# Altium schematic symbol library SchematicLib.SchLib: 140 symbols
Pins are listed as number, name and electrical type; pins without a type are passive.

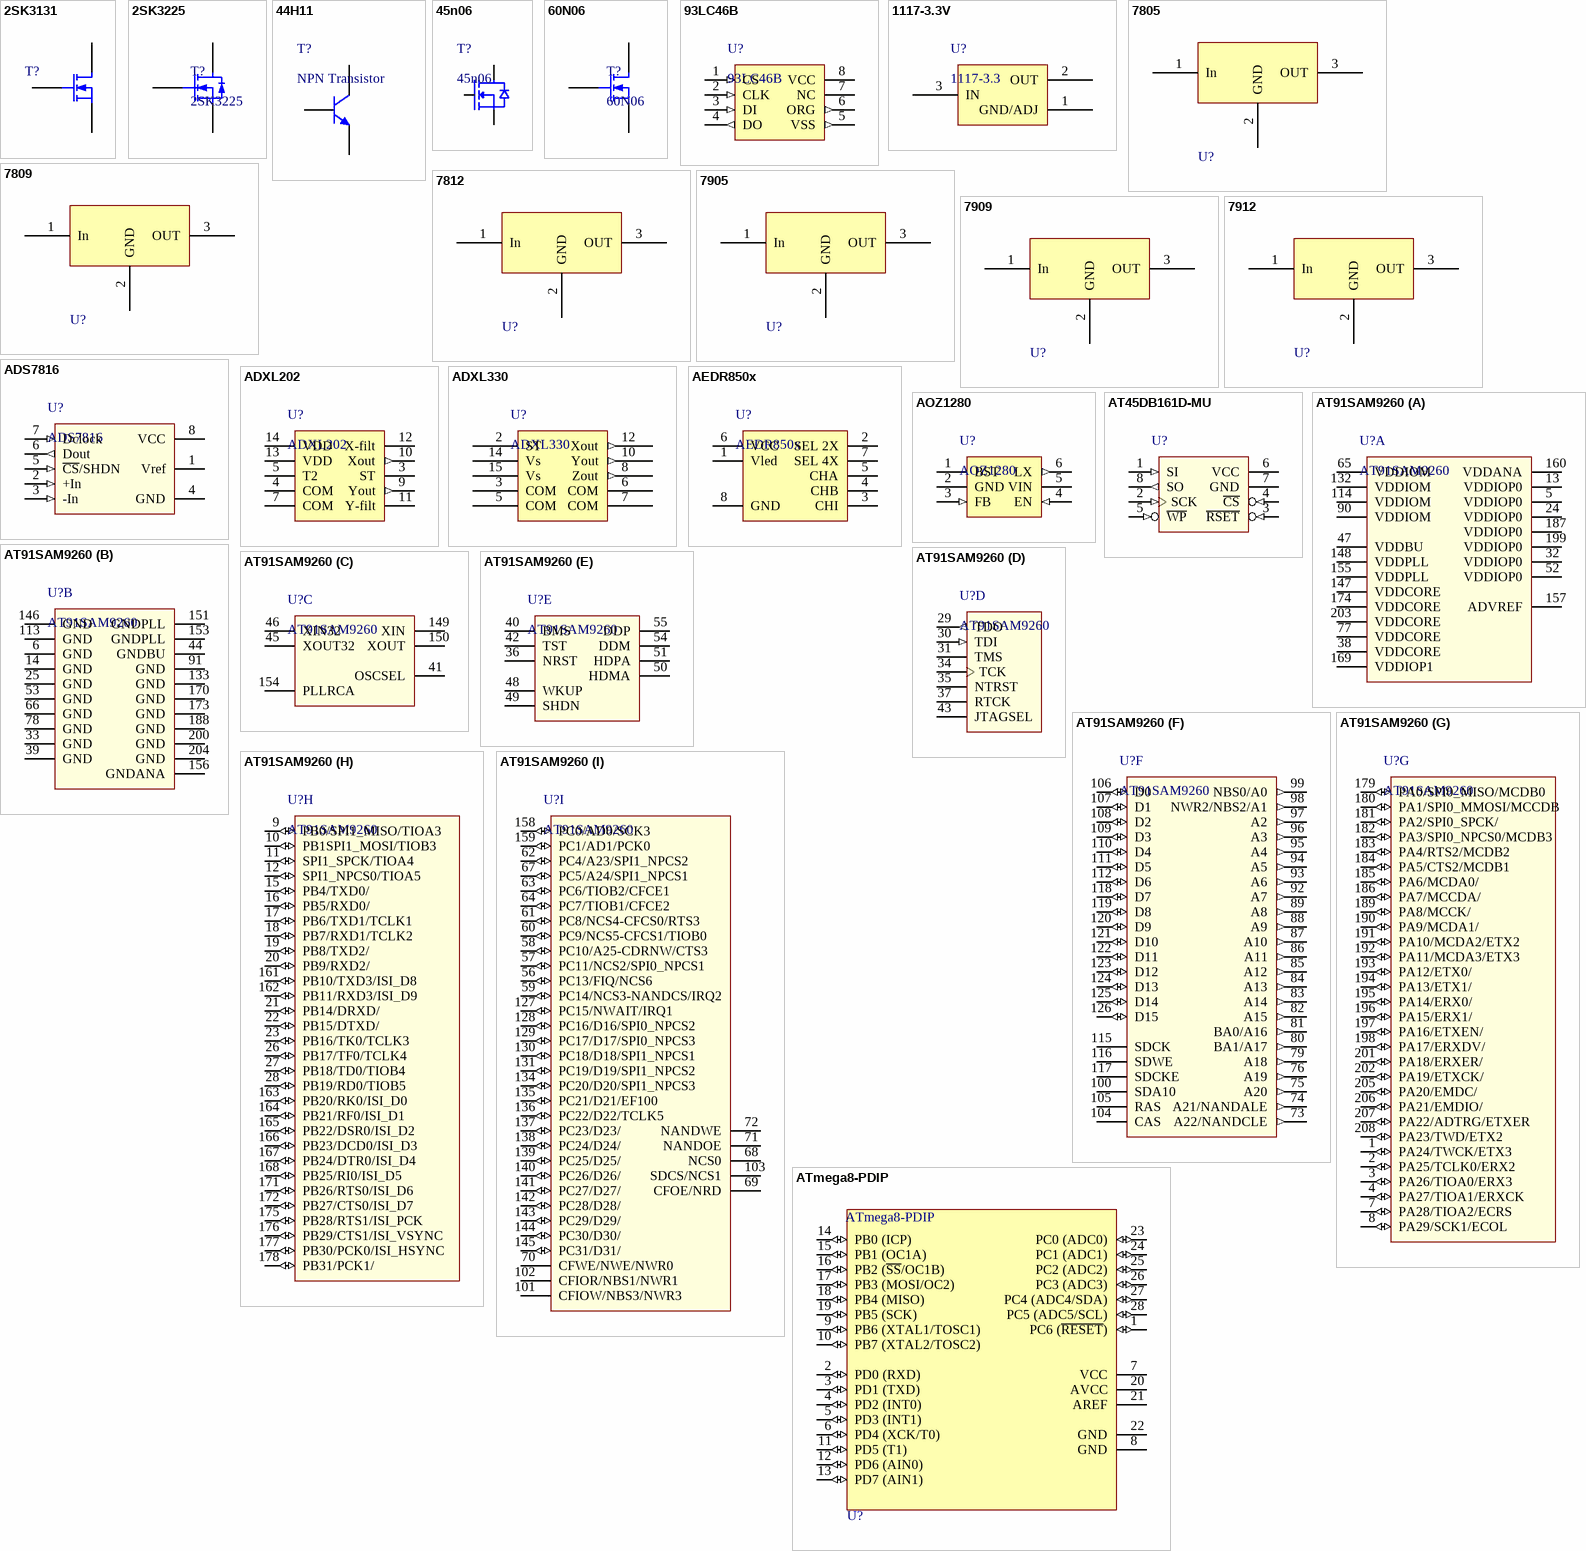
[diagram p0: symbols 2SK3131 to ATmega8-PDIP]

## 2SK3131
designator T?  (value not drawn)
pins: 1 G, 2 D, 3 S

## 2SK3225
designator T?
N-FET
footprint TO252
pins: 1 G, 2 D, 3 S

## 44H11
designator T?, comment NPN Transistor
footprint DPAK
pins: 1 B, 2 C, 3 E

## 45n06
designator T?
footprint TO-220
pins: 1, 2, 3

## 60N06
designator T?
N-CH 60V/60A/0.014R
footprint D2PACK
pins: 1 G, 2 D, 3 S

## 93LC46B
designator U?
EEPROM 1K
footprint TSSOP-8 (Shrink Small Outline; 8 Leads; Body Width 4.4 mm; Pitch 0.65 mm)
pins: 1 CS (in), 2 CLK (in), 3 DI (in), 4 DO (out), 5 VSS (out), 6 ORG (out), 7 NC, 8 VCC (power)

## 1117-3.3V
designator U?, comment 1117-3.3
3.3V Voltage Regulator
footprint SOT-223
pins: 1 GND/ADJ, 2 OUT, 3 IN

## 7805
designator U?  (value not drawn)
Reglator
footprint TO-220
footprint TO252
pins: 1 In, 2 GND, 3 OUT

## 7809
designator U?  (value not drawn)
Reglator
footprint TO-220
footprint DPAK
pins: 1 In, 2 GND, 3 OUT

## 7812
designator U?  (value not drawn)
Reglator
footprint TO-220
footprint DPAK
pins: 1 In, 2 GND, 3 OUT

## 7905
designator U?  (value not drawn)
Reglator
footprint TO-220
footprint DPAK
pins: 1 In, 2 GND, 3 OUT

## 7909
designator U?  (value not drawn)
Reglator
footprint TO-220
footprint DPAK
pins: 1 In, 2 GND, 3 OUT

## 7912
designator U?  (value not drawn)
Reglator
footprint TO-220
footprint DPAK
pins: 1 In, 2 GND, 3 OUT
1 alternate drawing of the same symbol

## ADS7816
designator U?
footprint DIP8
pins: 1 Vref (power), 2 +In (in), 3 -In (in), 4 GND (power), 5 ~{CS}/SHDN (in), 6 Dout (out), 7 Dclock (in), 8 VCC (power)

## ADXL202
designator U?
footprint QC-14
pins: 3 ST, 4 COM, 5 T2, 7 COM, 9 Yout (out), 10 Xout (out), 11 Y-filt, 12 X-filt, 13 VDD, 14 VDD

## ADXL330
designator U?
3-D Accelerometer
footprint LFCSP_LQ16
pins: 1 NC hidden, 2 ST, 3 COM, 4 NC hidden, 5 COM, 6 COM, 7 COM, 8 Zout (out), 9 NC hidden, 10 Yout (out), 11 NC hidden, 12 Xout (out), 13 NC hidden, 14 Vs (power), 15 Vs (power), 16 NC hidden

## AEDR850x
designator U?
Reflectiveo Optical Encoder
footprint AEDR-850x
pins: 1 Vled (power), 2 SEL 2X, 3 CHI, 4 CHB, 5 CHA, 6 VCC (power), 7 SEL 4X, 8 GND

## AOZ1280
designator U?
footprint SOT-23-6
pins: 1 BST, 2 GND (power), 3 FB (in), 4 EN (in), 5 VIN (power), 6 LX (out)

## AT45DB161D-MU
designator U?  (value not drawn)
16Mbit Data Flash
footprint 8S2-EIAJ SOIC
pins: 1 SI (in), 2 SCK (in), 3 ~{RSET} (in), 4 ~{CS} (in), 5 ~{WP} (in), 6 VCC (power), 7 GND (power), 8 SO (out)

## AT91SAM9260
designator U?
32-bit ARM9 MCU
footprint PQFP208-M
part A pins: 5 VDDIOP0 (power), 13 VDDIOP0 (power), 24 VDDIOP0 (power), 32 VDDIOP0 (power), 38 VDDCORE (power), 47 VDDBU, 52 VDDIOP0 (power), 65 VDDIOM (power), 77 VDDCORE (power), 90 VDDIOM (power), 114 VDDIOM (power), 132 VDDIOM (power), 147 VDDCORE (power), 148 VDDPLL (power), 152 N.C hidden, 155 VDDPLL (power), 157 ADVREF (power), 160 VDDANA (power), 169 VDDIOP1 (power), 174 VDDCORE (power), 187 VDDIOP0 (power), 199 VDDIOP0 (power), 203 VDDCORE (power)
part B pins: 6 GND (power), 14 GND (power), 25 GND (power), 33 GND (power), 39 GND (power), 44 GNDBU (power), 53 GND (power), 66 GND (power), 78 GND (power), 91 GND (power), 113 GND (power), 133 GND (power), 146 GND (power), 151 GNDPLL (power), 153 GNDPLL (power), 156 GNDANA (power), 170 GND (power), 173 GND (power), 188 GND (power), 200 GND (power), 204 GND (power)
part C pins: 41 OSCSEL, 45 XOUT32, 46 XIN32, 149 XIN, 150 XOUT, 154 PLLRCA
part D pins: 29 TDO (out), 30 TDI (in), 31 TMS, 34 TCK, 35 NTRST, 37 RTCK, 43 JTAGSEL
part E pins: 36 NRST, 40 BMS, 42 TST, 48 WKUP, 49 SHDN, 50 HDMA, 51 HDPA, 54 DDM, 55 DDP
part F pins: 73 A22/NANDCLE (out), 74 A21/NANDALE (out), 75 A20 (out), 76 A19 (out), 79 A18 (out), 80 BA1/A17 (out), 81 BA0/A16 (out), 82 A15 (out), 83 A14 (out), 84 A13 (out), 85 A12 (out), 86 A11 (out), 87 A10 (out), 88 A9 (out), 89 A8 (out), 92 A7 (out), 93 A6 (out), 94 A5 (out), 95 A4 (out), 96 A3 (out), 97 A2 (out), 98 NWR2/NBS2/A1 (out), 99 NBS0/A0 (out), 100 SDA10, 104 CAS, 105 RAS, 106 D0 (io), 107 D1 (io), 108 D2 (io), 109 D3 (io), 110 D4 (io), 111 D5 (io), 112 D6 (io), 115 SDCK, 116 SDWE, 117 SDCKE, 118 D7 (io), 119 D8 (io), 120 D9 (io), 121 D10 (io), 122 D11 (io), 123 D12 (io), 124 D13 (io), 125 D14 (io), 126 D15 (io)
part G pins: 1 PA24/TWCK/ETX3 (io), 2 PA25/TCLK0/ERX2 (io), 3 PA26/TIOA0/ERX3 (io), 4 PA27/TIOA1/ERXCK (io), 7 PA28/TIOA2/ECRS (io), 8 PA29/SCK1/ECOL (io), 179 PA0/SPI0_MISO/MCDB0 (io), 180 PA1/SPI0_MMOSI/MCCDB (io), 181 PA2/SPI0_SPCK/ (io), 182 PA3/SPI0_NPCS0/MCDB3 (io), 183 PA4/RTS2/MCDB2 (io), 184 PA5/CTS2/MCDB1 (io), 185 PA6/MCDA0/ (io), 186 PA7/MCCDA/ (io), 189 PA8/MCCK/ (io), 190 PA9/MCDA1/ (io), 191 PA10/MCDA2/ETX2 (io), 192 PA11/MCDA3/ETX3 (io), 193 PA12/ETX0/ (io), 194 PA13/ETX1/ (io), 195 PA14/ERX0/ (io), 196 PA15/ERX1/ (io), 197 PA16/ETXEN/ (io), 198 PA17/ERXDV/ (io), 201 PA18/ERXER/ (io), 202 PA19/ETXCK/ (io), 205 PA20/EMDC/ (io), 206 PA21/EMDIO/ (io), 207 PA22/ADTRG/ETXER (io), 208 PA23/TWD/ETX2 (io)
part H pins: 9 PB0/SPI1_MISO/TIOA3 (io), 10 PB1SPI1_MOSI/TIOB3 (io), 11 SPI1_SPCK/TIOA4 (io), 12 SPI1_NPCS0/TIOA5 (io), 15 PB4/TXD0/ (io), 16 PB5/RXD0/ (io), 17 PB6/TXD1/TCLK1 (io), 18 PB7/RXD1/TCLK2 (io), 19 PB8/TXD2/ (io), 20 PB9/RXD2/ (io), 21 PB14/DRXD/ (io), 22 PB15/DTXD/ (io), 23 PB16/TK0/TCLK3 (io), 26 PB17/TF0/TCLK4 (io), 27 PB18/TD0/TIOB4 (io), 28 PB19/RD0/TIOB5 (io), 161 PB10/TXD3/ISI_D8 (io), 162 PB11/RXD3/ISI_D9 (io), 163 PB20/RK0/ISI_D0 (io), 164 PB21/RF0/ISI_D1 (io), 165 PB22/DSR0/ISI_D2 (io), 166 PB23/DCD0/ISI_D3 (io), 167 PB24/DTR0/ISI_D4 (io), 168 PB25/RI0/ISI_D5 (io), 171 PB26/RTS0/ISI_D6 (io), 172 PB27/CTS0/ISI_D7 (io), 175 PB28/RTS1/ISI_PCK (io), 176 PB29/CTS1/ISI_VSYNC (io), 177 PB30/PCK0/ISI_HSYNC (io), 178 PB31/PCK1/ (io)
part I pins: 56 PC13/FIQ/NCS6 (io), 57 PC11/NCS2/SPI0_NPCS1 (io), 58 PC10/A25-CDRNW/CTS3 (io), 59 PC14/NCS3-NANDCS/IRQ2 (io), 60 PC9/NCS5-CFCS1/TIOB0 (io), 61 PC8/NCS4-CFCS0/RTS3 (io), 62 PC4/A23/SPI1_NPCS2 (io), 63 PC6/TIOB2/CFCE1 (io), 64 PC7/TIOB1/CFCE2 (io), 67 PC5/A24/SPI1_NPCS1 (io), 68 NCS0, 69 CFOE/NRD, 70 CFWE/NWE/NWR0, 71 NANDOE, 72 NANDWE, 101 CFIOW/NBS3/NWR3, 102 CFIOR/NBS1/NWR1, 103 SDCS/NCS1, 127 PC15/NWAIT/IRQ1 (io), 128 PC16/D16/SPI0_NPCS2 (io), 129 PC17/D17/SPI0_NPCS3 (io), 130 PC18/D18/SPI1_NPCS1 (io), 131 PC19/D19/SPI1_NPCS2 (io), 134 PC20/D20/SPI1_NPCS3 (io), 135 PC21/D21/EF100 (io), 136 PC22/D22/TCLK5 (io), 137 PC23/D23/ (io), 138 PC24/D24/ (io), 139 PC25/D25/ (io), 140 PC26/D26/ (io), 141 PC27/D27/ (io), 142 PC28/D28/ (io), 143 PC29/D29/ (io), 144 PC30/D30/ (io), 145 PC31/D31/ (io), 158 PC0/AD0/SCK3 (io), 159 PC1/AD1/PCK0 (io)

## ATmega8-PDIP
designator U?
8-Bit AVR Microcontroller; Published: 17-Sep-2003; LatestRevisionDate: 04-Mar-2005; LatestRevisionNote: Stylized 3D Model Added.; DatasheetVersion: 2486H-AVR-09/02; PackageVersion: revB, Sep-2001; PackageReference: 28P3; Publisher: Altium Limited; PackageDescription: DIP; 28 Leads; Row Spacing 7.62 mm; Pitch 2.54 mm; ComponentLink1Description: Manufacturer Link; ComponentLink1URL: http://www.atmel.com; ComponentLink2Description: Datasheet; ComponentLink2URL: http://www.atmel.com/dyn/resources/prod_documents/doc2486.pdf
footprint DIP28
pins: 1 PC6 (~{RESET}) (io), 2 PD0 (RXD) (io), 3 PD1 (TXD) (io), 4 PD2 (INT0) (io), 5 PD3 (INT1) (io), 6 PD4 (XCK/T0) (io), 7 VCC (power), 8 GND (power), 9 PB6 (XTAL1/TOSC1) (io), 10 PB7 (XTAL2/TOSC2) (io), 11 PD5 (T1) (io), 12 PD6 (AIN0) (io), 13 PD7 (AIN1) (io), 14 PB0 (ICP) (io), 15 PB1 (OC1A) (io), 16 PB2 (~{SS}/OC1B) (io), 17 PB3 (MOSI/OC2) (io), 18 PB4 (MISO) (io), 19 PB5 (SCK) (io), 20 AVCC (power), 21 AREF, 22 GND (power), 23 PC0 (ADC0) (io), 24 PC1 (ADC1) (io), 25 PC2 (ADC2) (io), 26 PC3 (ADC3) (io), 27 PC4 (ADC4/SDA) (io), 28 PC5 (ADC5/SCL) (io)

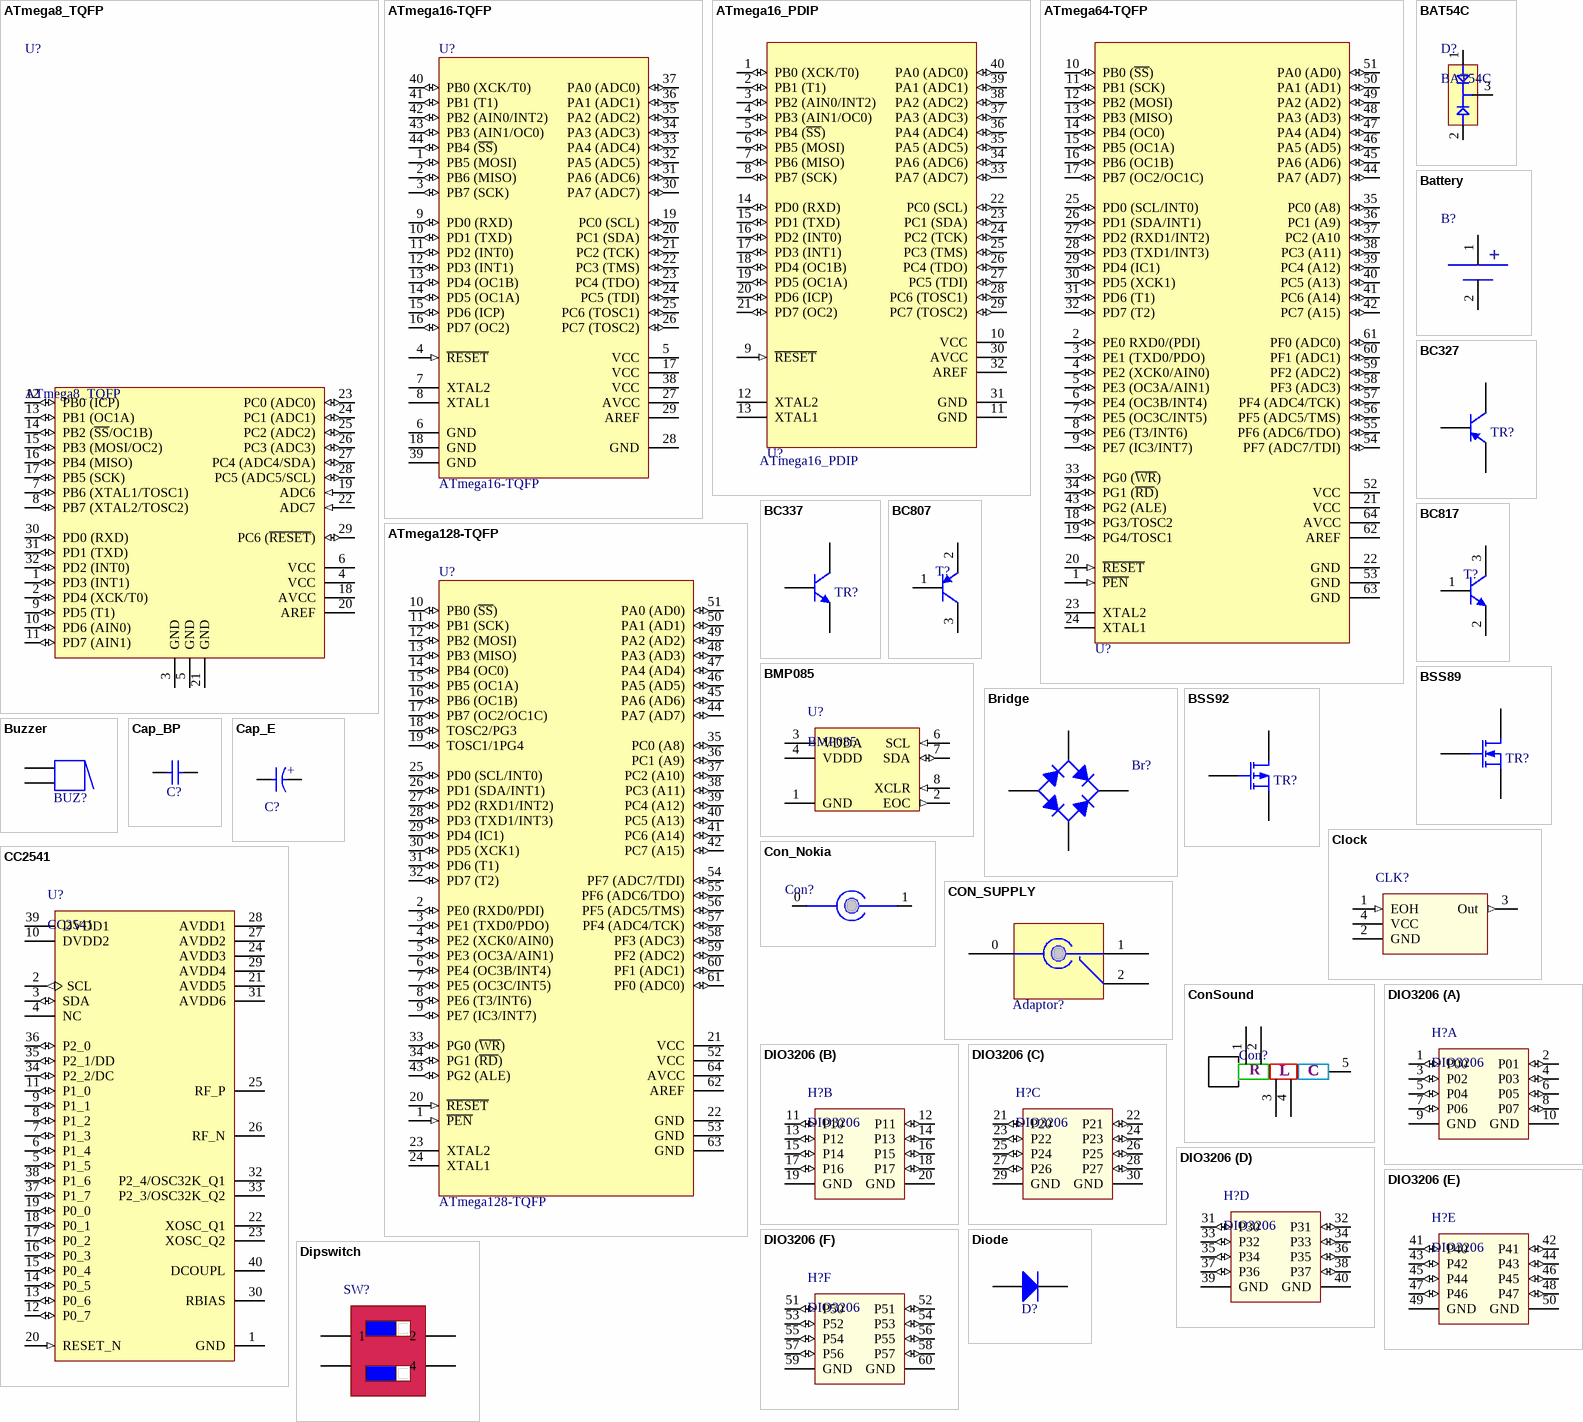
[diagram p1: symbols ATmega8_TQFP to Dipswitch]

## ATmega8_TQFP
designator U?
8-Bit AVR Microcontroller; Published: 17-Sep-2003; LatestRevisionDate: 13-Apr-2006; LatestRevisionNote: IPC-7351 Footprint Added.; DatasheetVersion: 2486H-AVR-09/02; PackageVersion: revB, Oct-2001; PackageReference: 32A; Publisher: Altium Limited; PackageDescription: 32-Pin Thin Quad Flat Pack 0.8 mm Pitch; Code_JEDEC: MS-026-ABA; ComponentLink1Description: Manufacturer Link; ComponentLink1URL: http://www.atmel.com; ComponentLink2Description: Datasheet; ComponentLink2URL: http://www.atmel.com/dyn/resources/prod_documents/doc2486.pdf
footprint ATmega8_TQFP (Thin QFP, 32-Leads, Body 7x7mm, Pitch 0.8mm, IPC High Density)
pins: 1 PD3 (INT1) (io), 2 PD4 (XCK/T0) (io), 3 GND (power), 4 VCC (power), 5 GND (power), 6 VCC (power), 7 PB6 (XTAL1/TOSC1) (io), 8 PB7 (XTAL2/TOSC2) (io), 9 PD5 (T1) (io), 10 PD6 (AIN0) (io), 11 PD7 (AIN1) (io), 12 PB0 (ICP) (io), 13 PB1 (OC1A) (io), 14 PB2 (~{SS}/OC1B) (io), 15 PB3 (MOSI/OC2) (io), 16 PB4 (MISO) (io), 17 PB5 (SCK) (io), 18 AVCC (power), 19 ADC6 (in), 20 AREF, 21 GND (power), 22 ADC7 (in), 23 PC0 (ADC0) (io), 24 PC1 (ADC1) (io), 25 PC2 (ADC2) (io), 26 PC3 (ADC3) (io), 27 PC4 (ADC4/SDA) (io), 28 PC5 (ADC5/SCL) (io), 29 PC6 (~{RESET}) (io), 30 PD0 (RXD) (io), 31 PD1 (TXD) (io), 32 PD2 (INT0) (io)

## ATmega16-TQFP
designator U?
8-Bit AVR Microcontroller with 16K Bytes of In-System Programmable Flash Memory; Published: 17-Sep-2003; LatestRevisionDate: 13-Apr-2006; LatestRevisionNote: IPC-7351 Footprint Added.; DatasheetVersion: 2466E-AVR-10/02; PackageVersion: rev.B, Oct-2001; PackageReference: 44A; Publisher: Altium Limited; PackageDescription: 44-Pin Thin Quad Flat Pack 0.8 mm Pitch; ComponentLink1Description: Manufacturer Link; ComponentLink1URL: http://www.atmel.com; ComponentLink2Description: Datasheet; ComponentLink2URL: http://www.atmel.com/dyn/resources/prod_documents/doc2466.pdf
footprint ATmega16-TQFP (Thin QFP, 44-Leads, Body 10x10mm, Pitch 0.8mm, IPC Medium Density)
pins: 1 PB5 (MOSI) (io), 2 PB6 (MISO) (io), 3 PB7 (SCK) (io), 4 ~{RESET} (in), 5 VCC (power), 6 GND (power), 7 XTAL2, 8 XTAL1, 9 PD0 (RXD) (io), 10 PD1 (TXD) (io), 11 PD2 (INT0) (io), 12 PD3 (INT1) (io), 13 PD4 (OC1B) (io), 14 PD5 (OC1A) (io), 15 PD6 (ICP) (io), 16 PD7 (OC2) (io), 17 VCC (power), 18 GND (power), 19 PC0 (SCL) (io), 20 PC1 (SDA) (io), 21 PC2 (TCK) (io), 22 PC3 (TMS) (io), 23 PC4 (TDO) (io), 24 PC5 (TDI) (io), 25 PC6 (TOSC1) (io), 26 PC7 (TOSC2) (io), 27 AVCC (power), 28 GND (power), 29 AREF, 30 PA7 (ADC7) (io), 31 PA6 (ADC6) (io), 32 PA5 (ADC5) (io), 33 PA4 (ADC4) (io), 34 PA3 (ADC3) (io), 35 PA2 (ADC2) (io), 36 PA1 (ADC1) (io), 37 PA0 (ADC0) (io), 38 VCC (power), 39 GND (power), 40 PB0 (XCK/T0) (io), 41 PB1 (T1) (io), 42 PB2 (AIN0/INT2) (io), 43 PB3 (AIN1/OC0) (io), 44 PB4 (~{SS}) (io)

## ATmega16_PDIP
designator U?
8-Bit AVR Microcontroller
footprint DIP40
pins: 1 PB0 (XCK/T0) (io), 2 PB1 (T1) (io), 3 PB2 (AIN0/INT2) (io), 4 PB3 (AIN1/OC0) (io), 5 PB4 (~{SS}) (io), 6 PB5 (MOSI) (io), 7 PB6 (MISO) (io), 8 PB7 (SCK) (io), 9 ~{RESET} (in), 10 VCC (power), 11 GND (power), 12 XTAL2, 13 XTAL1, 14 PD0 (RXD) (io), 15 PD1 (TXD) (io), 16 PD2 (INT0) (io), 17 PD3 (INT1) (io), 18 PD4 (OC1B) (io), 19 PD5 (OC1A) (io), 20 PD6 (ICP) (io), 21 PD7 (OC2) (io), 22 PC0 (SCL) (io), 23 PC1 (SDA) (io), 24 PC2 (TCK) (io), 25 PC3 (TMS) (io), 26 PC4 (TDO) (io), 27 PC5 (TDI) (io), 28 PC6 (TOSC1) (io), 29 PC7 (TOSC2) (io), 30 AVCC (power), 31 GND (power), 32 AREF, 33 PA7 (ADC7) (io), 34 PA6 (ADC6) (io), 35 PA5 (ADC5) (io), 36 PA4 (ADC4) (io), 37 PA3 (ADC3) (io), 38 PA2 (ADC2) (io), 39 PA1 (ADC1) (io), 40 PA0 (ADC0) (io)

## ATmega64-TQFP
designator U?  (value not drawn)
8-Bit AVR Microcontroller; Published: 17-Sep-2003; LatestRevisionDate: 13-Apr-2006; LatestRevisionNote: IPC-7351 Footprint Added.; DatasheetVersion: 2490C-AVR-009/02; PackageVersion: revB, Oct-2001; PackageReference: 64A; Publisher: Altium Limited; PackageDescription: 64-Pin Thin Quad Flat Pack 0.8 mm Pitch; Code_JEDEC: MS-026-AEB; ComponentLink1Description: Manufacturer Link; ComponentLink1URL: http://www.atmel.com; ComponentLink2Description: Datasheet; ComponentLink2URL: http://www.atmel.com/dyn/resources/prod_documents/doc2490.pdf
footprint ATmega64-TQFP (Thin QFP, 64-Leads, Body 14x14mm, Pitch 0.8mm, IPC Low Density)
pins: 1 ~{PEN} (in), 2 PE0 RXD0/(PDI) (io), 3 PE1 (TXD0/PDO) (io), 4 PE2 (XCK0/AIN0) (io), 5 PE3 (OC3A/AIN1) (io), 6 PE4 (OC3B/INT4) (io), 7 PE5 (OC3C/INT5) (io), 8 PE6 (T3/INT6) (io), 9 PE7 (IC3/INT7) (io), 10 PB0 (~{SS}) (io), 11 PB1 (SCK) (io), 12 PB2 (MOSI) (io), 13 PB3 (MISO) (io), 14 PB4 (OC0) (io), 15 PB5 (OC1A) (io), 16 PB6 (OC1B) (io), 17 PB7 (OC2/OC1C) (io), 18 PG3/TOSC2 (io), 19 PG4/TOSC1 (io), 20 ~{RESET} (in), 21 VCC (power), 22 GND (power), 23 XTAL2, 24 XTAL1, 25 PD0 (SCL/INT0) (io), 26 PD1 (SDA/INT1) (io), 27 PD2 (RXD1/INT2) (io), 28 PD3 (TXD1/INT3) (io), 29 PD4 (IC1) (io), 30 PD5 (XCK1) (io), 31 PD6 (T1) (io), 32 PD7 (T2) (io), 33 PG0 (~{WR}) (io), 34 PG1 (~{RD}) (io), 35 PC0 (A8) (io), 36 PC1 (A9) (io), 37 PC2 (A10 (io), 38 PC3 (A11) (io), 39 PC4 (A12) (io), 40 PC5 (A13) (io), 41 PC6 (A14) (io), 42 PC7 (A15) (io), 43 PG2 (ALE) (io), 44 PA7 (AD7) (io), 45 PA6 (AD6) (io), 46 PA5 (AD5) (io), 47 PA4 (AD4) (io), 48 PA3 (AD3) (io), 49 PA2 (AD2) (io), 50 PA1 (AD1) (io), 51 PA0 (AD0) (io), 52 VCC (power), 53 GND (power), 54 PF7 (ADC7/TDI) (io), 55 PF6 (ADC6/TDO) (io), 56 PF5 (ADC5/TMS) (io), 57 PF4 (ADC4/TCK) (io), 58 PF3 (ADC3) (io), 59 PF2 (ADC2) (io), 60 PF1 (ADC1) (io), 61 PF0 (ADC0) (io), 62 AREF, 63 GND (power), 64 AVCC (power)

## ATmega128-TQFP
designator U?
8-Bit AVR Microcontroller; Published: 17-Sep-2003; LatestRevisionDate: 13-Apr-2006; LatestRevisionNote: IPC-7351 Footprint Added.; DatasheetVersion: 2467G-AVR-09/02; PackageVersion: revB, Oct-2001; PackageReference: 64A; Publisher: Altium Limited; PackageDescription: 64-Pin Thin Quad Flat Pack 0.8 mm Pitch; Code_JEDEC: MS-026-AEB; ComponentLink1Description: Manufacturer Link; ComponentLink1URL: http://www.atmel.com; ComponentLink2Description: Datasheet; ComponentLink2URL: http://www.atmel.com/dyn/resources/prod_documents/doc2467.pdf
footprint ATmega64-TQFP (Thin QFP, 64-Leads, Body 14x14mm, Pitch 0.8mm, IPC Low Density)
pins: 1 ~{PEN} (in), 2 PE0 (RXD0/PDI) (io), 3 PE1 (TXD0/PDO) (io), 4 PE2 (XCK0/AIN0) (io), 5 PE3 (OC3A/AIN1) (io), 6 PE4 (OC3B/INT4) (io), 7 PE5 (OC3C/INT5) (io), 8 PE6 (T3/INT6) (io), 9 PE7 (IC3/INT7) (io), 10 PB0 (~{SS}) (io), 11 PB1 (SCK) (io), 12 PB2 (MOSI) (io), 13 PB3 (MISO) (io), 14 PB4 (OC0) (io), 15 PB5 (OC1A) (io), 16 PB6 (OC1B) (io), 17 PB7 (OC2/OC1C) (io), 18 TOSC2/PG3 (io), 19 TOSC1/1PG4 (io), 20 ~{RESET} (in), 21 VCC (power), 22 GND (power), 23 XTAL2, 24 XTAL1, 25 PD0 (SCL/INT0) (io), 26 PD1 (SDA/INT1) (io), 27 PD2 (RXD1/INT2) (io), 28 PD3 (TXD1/INT3) (io), 29 PD4 (IC1) (io), 30 PD5 (XCK1) (io), 31 PD6 (T1) (io), 32 PD7 (T2) (io), 33 PG0 (~{WR}) (io), 34 PG1 (~{RD}) (io), 35 PC0 (A8) (io), 36 PC1 (A9) (io), 37 PC2 (A10) (io), 38 PC3 (A11) (io), 39 PC4 (A12) (io), 40 PC5 (A13) (io), 41 PC6 (A14) (io), 42 PC7 (A15) (io), 43 PG2 (ALE) (io), 44 PA7 (AD7) (io), 45 PA6 (AD6) (io), 46 PA5 (AD5) (io), 47 PA4 (AD4) (io), 48 PA3 (AD3) (io), 49 PA2 (AD2) (io), 50 PA1 (AD1) (io), 51 PA0 (AD0) (io), 52 VCC (power), 53 GND (power), 54 PF7 (ADC7/TDI) (io), 55 PF6 (ADC6/TDO) (io), 56 PF5 (ADC5/TMS) (io), 57 PF4 (ADC4/TCK) (io), 58 PF3 (ADC3) (io), 59 PF2 (ADC2) (io), 60 PF1 (ADC1) (io), 61 PF0 (ADC0) (io), 62 AREF, 63 GND (power), 64 AVCC (power)

## BAT54C
designator D?
Barrier Diod
pins: 1, 2, 3

## Battery
designator B?  (value not drawn)
footprint Coin - 1220
footprint COIN - 2
pins: 1 (power), 2 (power)

## BC327
designator TR?  (value not drawn)
PNP Transistor
footprint TO-92-1
footprint TO-92-2
pins: 1 C, 2 B, 3 E

## BC337
designator TR?  (value not drawn)
NPN Transistor
footprint TO-92-1
footprint TO-92-2
pins: 1 C, 2 B, 3 E

## BC807
designator T?  (value not drawn)
PNP SMD Transistor
footprint SOT-23
pins: 1 B, 2 E, 3 C

## BC817
designator T?  (value not drawn)
NPN SMD Transistor
footprint SOT-23
pins: 1 B, 2 E, 3 C

## BMP085
designator U?
Air Pressure Sensor
footprint BMP085
pins: 1 GND (power), 2 EOC (out), 3 VDDA (power), 4 VDDD (power), 5 NC hidden, 6 SCL (in), 7  SDA (io), 8 XCLR (in)

## Bridge
designator Br?  (value not drawn)
Diode; Value: Bridge
footprint BRIDGE-1
footprint BRIDGE-2
footprint BRIDGE-3
footprint BRIDGE-4
footprint BRIDGE-6
pins: 1 A, 2 C, 3 K, 4 C

## BSS89
designator TR?, comment NMOS 240V 300mA 6ohm  (value not drawn)
Transistor
footprint BSS89-1
footprint BSS89-2
pins: 1 G, 2 D, 3 S

## BSS92
designator TR?, comment Pmos 240V 150mA 20_Ohm  (value not drawn)
Transistor
footprint BSS89-1
footprint BSS89-2
pins: 1 G, 2 D, 3 S

## Buzzer
designator BUZ?  (value not drawn)
Magnetic Transducer Buzzer; Published: 24-Mar-1999; LatestRevisionDate: 17-Dec-2003; LatestRevisionNote: Schematic revised, PCB Footprint replaced.; DatasheetDocument: 17-Dec-2003; PackageReference: ABSM-1574; Publisher: Altium Limited; ComponentLink1Description: Manufacturer Link; ComponentLink1URL: http://www.megastar.com/linecard/buzzmode/index.php; Value: ?
footprint BUZZER
pins: 1, 2
1 alternate drawing of the same symbol

## Cap_BP
designator C?, comment ?F  (value not drawn)
Capacitor; Value: ?F
footprint CAPA_BP_2mm
footprint CAPA_BP_3mm
footprint CAPA_BP_5mm
footprint CAPA_BP_7mm
footprint CAPA_BP_8mm
footprint CAPA_BP_14mm
footprint CAPA_BP_20mm
footprint CAPA_BP_27mm
footprint 6332[2512]
footprint 5025[2010]
footprint 3225[1210]
footprint 3216[1206]
footprint 2012[0805]
footprint 1608[0603] (Chip Capacitor; Body 1.6 x 0.8 mm (LxW typ))
footprint 1005[0402] (SMT LED; 2 Flat Leads)
footprint 6032 [2312]
footprint 0805
pins: 1, 2

## Cap_E
designator C?, comment ?F  (value not drawn)
Capacitor; Value: ?F
footprint CAPA_4.5mm
footprint CAPA_5.5mm
footprint CAPA_6.5mm
footprint CAPA_8.5mm
footprint CAPA_10mm
footprint CAPA_13mm
footprint CAPA_16mm
footprint CAPA_E-1
footprint CAPA_E-2
footprint 3216
footprint 6032 [2312]
footprint CAPA_22MM
footprint Large_SMD_Cap
footprint 6032 [2312] Non-Polar
footprint 1608[0603] - Polar (Chip Capacitor; Body 1.6 x 0.8 mm (LxW typ))
footprint UUG_Series_Cap
footprint UWT_Series_Cap
pins: 1, 2
text: +

## CC2541
designator U?
Bluetooth LE SOC
pins: 1 GND (power), 2 SCL (out), 3 SDA (io), 4 NC, 5 P1_5 (io), 6 P1_4 (io), 7 P1_3 (io), 8 P1_2 (io), 9 P1_1 (io), 10 DVDD2 (power), 11 P1_0 (io), 12 P0_7 (io), 13 P0_6 (io), 14 P0_5 (io), 15 P0_4 (io), 16 P0_3 (io), 17 P0_2 (io), 18 P0_1 (io), 19 P0_0 (io), 20 RESET_N (in), 21 AVDD5 (power), 22 XOSC_Q1, 23 XOSC_Q2, 24 AVDD3 (power), 25 RF_P, 26 RF_N, 27 AVDD2 (power), 28 AVDD1 (power), 29 AVDD4 (power), 30 RBIAS, 31 AVDD6 (power), 32 P2_4/OSC32K_Q1, 33 P2_3/OSC32K_Q2, 34 P2_2/DC (io), 35 P2_1/DD (io), 36 P2_0 (io), 37 P1_7 (io), 38 P1_6 (io), 39 DVDD1 (power), 40 DCOUPL (power)

## Clock
designator CLK?  (value not drawn)
footprint CLK-SMD 7*5
pins: 1 EOH (in), 2 GND (power), 3 Out (out), 4 VCC (power)

## Con_Nokia
designator Con?, comment Nokia Connector  (value not drawn)
footprint PowConNokia
pins: 0 -, 1 +

## CON_SUPPLY
designator Adaptor?  (value not drawn)
Adaptor
footprint PowerCon
pins: 0 GND, 1 VDD, 2 BUT

## ConSound
designator Con?  (value not drawn)
footprint CONSOUND
pins: 1, 2, 3, 4, 5
text: R; L; C

## DIO3206
designator H?
footprint hdr 2X30S
part A pins: 1 P00 (io), 2 P01 (io), 3 P02 (io), 4 P03 (io), 5 P04 (io), 6 P05 (io), 7 P06 (io), 8 P07 (io), 9 GND (power), 10 GND (power)
part B pins: 11 P10 (io), 12 P11 (io), 13 P12 (io), 14 P13 (io), 15 P14 (io), 16 P15 (io), 17 P16 (io), 18 P17 (io), 19 GND (power), 20 GND (power)
part C pins: 21 P20 (io), 22 P21 (io), 23 P22 (io), 24 P23 (io), 25 P24 (io), 26 P25 (io), 27 P26 (io), 28 P27 (io), 29 GND (power), 30 GND (power)
part D pins: 31 P30 (io), 32 P31 (io), 33 P32 (io), 34 P33 (io), 35 P34 (io), 36 P35 (io), 37 P36 (io), 38 P37 (io), 39 GND (power), 40 GND (power)
part E pins: 41 P40 (io), 42 P41 (io), 43 P42 (io), 44 P43 (io), 45 P44 (io), 46 P45 (io), 47 P46 (io), 48 P47 (io), 49 GND (power), 50 GND (power)
part F pins: 51 P50 (io), 52 P51 (io), 53 P52 (io), 54 P53 (io), 55 P54 (io), 56 P55 (io), 57 P56 (io), 58 P57 (io), 59 GND (power), 60 GND (power)

## Diode
designator D?, comment ?  (value not drawn)
Diode; Value: ?
footprint Diode-1
footprint DIODE-2
footprint DIODE-3
footprint DIODE-4
footprint FSV330AF/FSV340AF
pins: 1 A, 2 K

## Dipswitch
designator SW?  (value not drawn)
Switch
footprint Dipswitch
pins: 1, 2, 3, 4

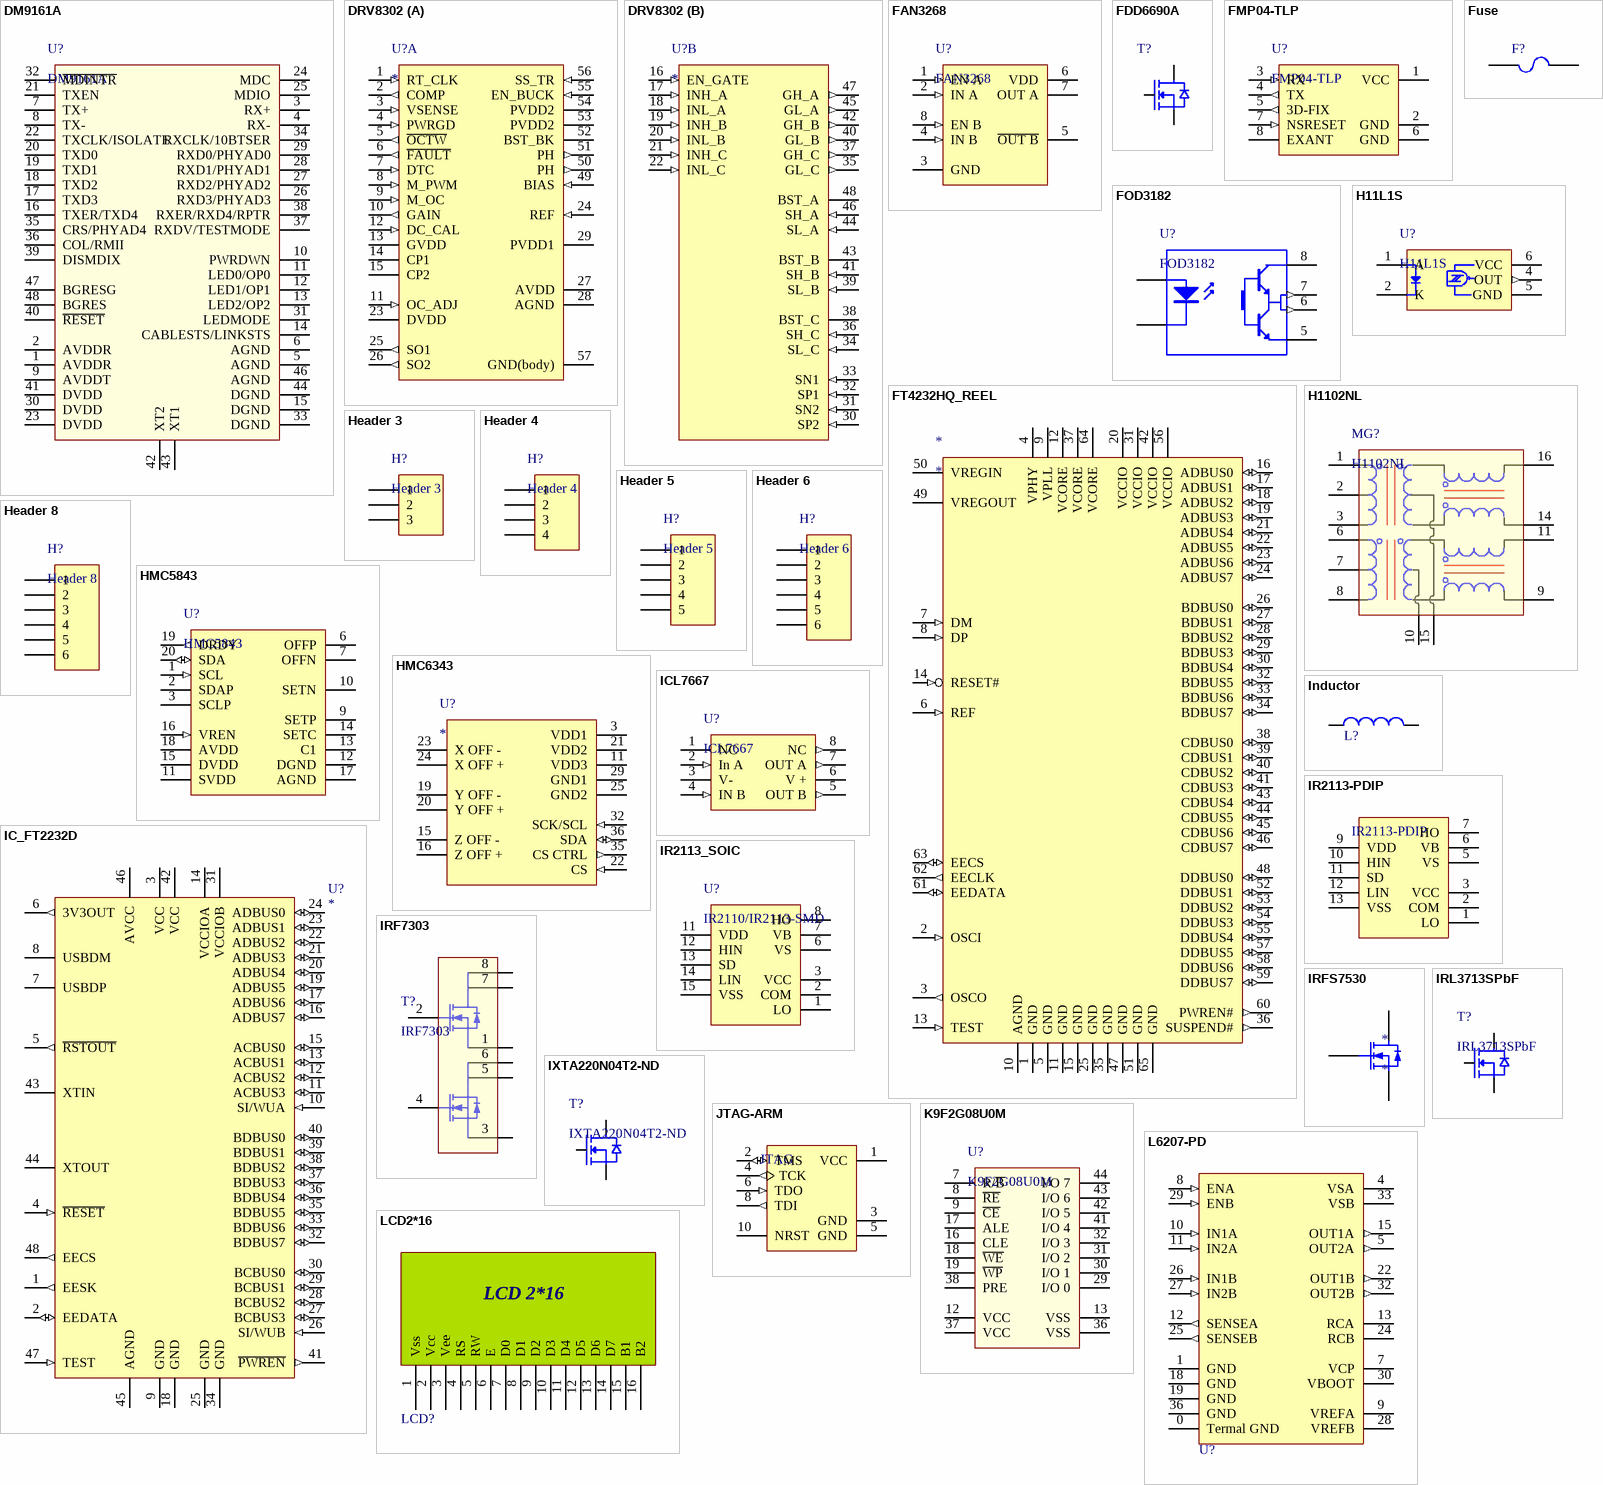
[diagram p2: symbols DM9161A to LCD2*16]

## DM9161A
designator U?
10/100Mbps Fast Ethernet Phisycal Layer
footprint LQFP48_M
pins: 1 AVDDR, 2 AVDDR, 3 RX+, 4 RX-, 5 AGND (power), 6 AGND (power), 7 TX+, 8 TX-, 9 AVDDT (power), 10 PWRDWN, 11 LED0/OP0, 12 LED1/OP1, 13 LED2/OP2, 14 CABLESTS/LINKSTS, 15 DGND (power), 16 TXER/TXD4, 17 TXD3, 18 TXD2, 19 TXD1, 20 TXD0, 21 TXEN, 22 TXCLK/ISOLATE, 23 DVDD (power), 24 MDC, 25 MDIO, 26 RXD3/PHYAD3, 27 RXD2/PHYAD2, 28 RXD1/PHYAD1, 29 RXD0/PHYAD0, 30 DVDD (power), 31 LEDMODE, 32 ~{MDINTR}, 33 DGND (power), 34 RXCLK/10BTSER, 35 CRS/PHYAD4, 36 COL/RMII, 37 RXDV/TESTMODE, 38 RXER/RXD4/RPTR, 39 DISMDIX, 40 ~{RESET}, 41 DVDD (power), 42 XT2, 43 XT1, 44 DGND (power), 45 N.C hidden, 46 AGND (power), 47 BGRESG, 48 BGRES

## DRV8302
designator U?
footprint DRV8302
part A pins: 1 RT_CLK (in), 2 COMP (out), 3 VSENSE (in), 4 PWRGD (in), 5 ~{OCTW} (out), 6 ~{FAULT} (out), 7 DTC (in), 8 M_PWM (in), 9 M_OC (in), 10 GAIN (out), 11 OC_ADJ (in), 12 DC_CAL (in), 13 GVDD (power), 14 CP1 (power), 15 CP2 (power), 23 DVDD (power), 24 REF (in), 25 SO1 (out), 26 SO2 (out), 27 AVDD (power), 28 AGND (power), 29 PVDD1 (power), 49 BIAS (in), 50 PH (out), 51 PH (out), 52 BST_BK (power), 53 PVDD2 (power), 54 PVDD2 (power), 55 EN_BUCK (in), 56 SS_TR (in), 57 GND(body) (power)
part B pins: 16 EN_GATE (in), 17 INH_A (in), 18 INL_A (in), 19 INH_B (in), 20 INL_B (in), 21 INH_C (in), 22 INL_C (in), 30 SP2 (in), 31 SN2 (in), 32 SP1 (in), 33 SN1 (in), 34 SL_C (in), 35 GL_C (out), 36 SH_C (in), 37 GH_C (out), 38 BST_C (power), 39 SL_B (in), 40 GL_B (out), 41 SH_B (in), 42 GH_B (out), 43 BST_B (power), 44 SL_A (in), 45 GL_A (out), 46 SH_A (in), 47 GH_A (out), 48 BST_A (power)

## FAN3268
designator U?
2A P-N Bridge Driver
footprint SOIC8
pins: 1 EN A (in), 2 IN A (in), 3 GND (power), 4 IN B (in), 5 ~{OUT B}, 6 VDD (power), 7 OUT A, 8 EN B (in)

## FDD6690A
designator T?  (value not drawn)
N-Mos
footprint DPAK
pins: 1, 2, 3

## FMP04-TLP
designator U?
GPS Receiver
footprint FMP04-TLP
pins: 1 VCC (power), 2 GND (power), 3 RX (in), 4 TX (out), 5 3D-FIX (out), 6 GND (power), 7 NSRESET (in), 8 EXANT

## FOD3182
designator U?
footprint SMT8
pins: 2 A, 3 K, 5 GND (power), 6 out (out), 7 out (out), 8 VDD

## FT4232HQ_REEL
designator *
footprint QFN64_2_L
footprint QFN64_2_L_Smaller_Holes
pins: 1 GND (power), 2 OSCI (in), 3 OSCO (out), 4 VPHY (power), 5 GND (power), 6 REF (in), 7 DM (in), 8 DP (in), 9 VPLL (power), 10 AGND (power), 11 GND (power), 12 VCORE (power), 13 TEST (in), 14 RESET# (in), 15 GND (power), 16 ADBUS0 (io), 17 ADBUS1 (io), 18 ADBUS2 (io), 19 ADBUS3 (io), 20 VCCIO (power), 21 ADBUS4 (io), 22 ADBUS5 (io), 23 ADBUS6 (io), 24 ADBUS7 (io), 25 GND (power), 26 BDBUS0 (io), 27 BDBUS1 (io), 28 BDBUS2 (io), 29 BDBUS3 (io), 30 BDBUS4 (io), 31 VCCIO (power), 32 BDBUS5 (io), 33 BDBUS6 (io), 34 BDBUS7 (io), 35 GND (power), 36 SUSPEND# (out), 37 VCORE (power), 38 CDBUS0 (io), 39 CDBUS1 (io), 40 CDBUS2 (io), 41 CDBUS3 (io), 42 VCCIO (power), 43 CDBUS4 (io), 44 CDBUS5 (io), 45 CDBUS6 (io), 46 CDBUS7 (io), 47 GND (power), 48 DDBUS0 (io), 49 VREGOUT (power), 50 VREGIN (power), 51 GND (power), 52 DDBUS1 (io), 53 DDBUS2 (io), 54 DDBUS3 (io), 55 DDBUS4 (io), 56 VCCIO (power), 57 DDBUS5 (io), 58 DDBUS6 (io), 59 DDBUS7 (io), 60 PWREN# (out), 61 EEDATA (io), 62 EECLK (out), 63 EECS (io), 64 VCORE (power), 65 GND (power)

## Fuse
designator F?  (value not drawn)
Value: *
footprint Fuse_S
footprint CAPA_BP_3mm
footprint 3216[1206]
pins: 1 (power), 2 (power)

## H11L1S
designator U?
Opto Shmit-trigger gate
footprint Opto-S
pins: 1 A, 2 K, 4 OUT (out), 5 GND (power), 6 VCC (power)

## H1102NL
designator MG?
10/100BASE-T Single Port Surface Mount Magnetics
footprint H1102NL
pins: 1, 2, 3, 4 hidden, 5 hidden, 6, 7, 8, 9, 10, 11, 12 hidden, 13 hidden, 14, 15, 16

## Header 3
designator H?
footprint Header 3  ZH-SM4
footprint Header 3  -MolexPicoBlade
pins: 1, 2, 3

## Header 4
designator H?
footprint Header 4  ZH-SM4
footprint Header 4  -MolexPicoBlade
pins: 1, 2, 3, 4

## Header 5
designator H?
footprint Header 5  -MolexPicoBlade
pins: 1, 2, 3, 4, 5

## Header 6
designator H?
footprint Header 6  ZH-SM4
footprint Header 6  -MolexPicoBlade
pins: 1, 2, 3, 4, 5, 6

## Header 8
designator H?
footprint Header 8  -MolexPicoBlade
pins: 1, 2, 3, 4, 5, 6

## HMC5843
designator U?
Compass Sensor
footprint LPCC-20
pins: 1 SCL (in), 2 SDAP, 3 SCLP, 4 NC hidden, 5 NC hidden, 6 OFFP, 7 OFFN, 8 NC hidden, 9 SETP, 10 SETN, 11 SVDD, 12 DGND (power), 13 C1, 14 SETC, 15 DVDD, 16 VREN (in), 17 AGND, 18 AVDD, 19 DRDY (out), 20 SDA (io)

## HMC6343
designator U?
Compass Sensor
footprint PLCC-36
pins: 1 NC hidden, 2 NC hidden, 3 VDD1 (power), 4 NC hidden, 5 NC hidden, 6 NC hidden, 7 NC hidden, 8 NC hidden, 9 NC hidden, 10 NC hidden, 11 VDD3 (power), 12 NC hidden, 13 NC hidden, 14 NC hidden, 15 Z OFF -, 16 Z OFF +, 17 NC hidden, 18 NC hidden, 19 Y OFF -, 20 Y OFF +, 21 VDD2 (power), 22 CS (in), 23 X OFF -, 24 X OFF +, 25 GND2 (power), 26 NC hidden, 27 NC hidden, 28 NC hidden, 29 GND1 (power), 30 NC hidden, 31 NC hidden, 32 SCK/SCL (in), 33 NC hidden, 34 NC hidden, 35 CS CTRL (out), 36 SDA (io)

## IC_FT2232D
designator U?
Dual USB UART/FIFO; Manufacturer: *; Note: *; ManufacturerPartNo: *
footprint LQFP-48
pins: 1 EESK (out), 2 EEDATA (io), 3 VCC (power), 4 ~{RESET} (in), 5 ~{RSTOUT} (out), 6 3V3OUT (out), 7 USBDP, 8 USBDM, 9 GND (power), 10 SI/WUA (in), 11 ACBUS3 (io), 12 ACBUS2 (io), 13 ACBUS1 (io), 14 VCCIOA (power), 15 ACBUS0 (io), 16 ADBUS7 (io), 17 ADBUS6 (io), 18 GND (power), 19 ADBUS5 (io), 20 ADBUS4 (io), 21 ADBUS3 (io), 22 ADBUS2 (io), 23 ADBUS1 (io), 24 ADBUS0 (io), 25 GND (power), 26 SI/WUB (in), 27 BCBUS3 (io), 28 BCBUS2 (io), 29 BCBUS1 (io), 30 BCBUS0 (io), 31 VCCIOB (power), 32 BDBUS7 (io), 33 BDBUS6 (io), 34 GND (power), 35 BDBUS5 (io), 36 BDBUS4 (io), 37 BDBUS3 (io), 38 BDBUS2 (io), 39 BDBUS1 (io), 40 BDBUS0 (io), 41 ~{PWREN} (out), 42 VCC (power), 43 XTIN, 44 XTOUT, 45 AGND (power), 46 AVCC (power), 47 TEST (in), 48 EECS (out)
2 alternate drawings of the same symbol

## ICL7667
designator U?
Dual Mosfet Driver
footprint SOIC8
footprint DIP8
pins: 1 NC, 2 In A (in), 3 V- (power), 4 IN B (in), 5 OUT B (out), 6 V + (power), 7 OUT A (out), 8 NC (out)

## Inductor
designator L?, comment ?H  (value not drawn)
Inductor; Value: ?H
footprint INDUCTOR-1
footprint INDUCTOR-2 (tiroyid inductor)
footprint INDUCTOR-3
footprint INDUCTOR-4
footprint INDUCTOR-5
footprint VLC2
footprint 0805
footprint SDR0805
footprint Toroid
pins: 1, 2

## IR2113-PDIP
designator U?
Mosfet Driver
footprint DIP14
pins: 1 LO, 2 COM, 3 VCC, 5 VS, 6 VB, 7 HO, 9 VDD, 10 HIN, 11 SD, 12 LIN, 13 VSS

## IR2113_SOIC
designator U?, comment IR2110/IR2113-SMD
Mosfet Driver
footprint SOIC16
pins: 1 LO, 2 COM, 3 VCC, 6 VS, 7 VB, 8 HO, 11 VDD, 12 HIN, 13 SD, 14 LIN, 15 VSS

## IRF7303
designator T?
N-CH 30V/5A/0.05R
footprint SOIC8
pins: 1 S1, 2 G1, 3 S2, 4 G2, 5 D2, 6 D2, 7 D1, 8 D1

## IRFS7530
designator *
footprint D2PAK-7Pin (Mosfet)
pins: 1 G, 2 D, 3 S

## IRL3713SPbF
designator T?
footprint D2PACK
pins: 1, 2, 3

## IXTA220N04T2-ND
designator T?
N Channel Fet
footprint TO-263AB_L (Footprint not found)
pins: 1, 3, 4

## JTAG-ARM
designator H?, comment JTAG
USB JTAG Programmer
footprint JTAG
footprint HDR-2*5-0.05
footprint HDR-2*5-0.05_Without_Through_Hole
pins: 1 VCC (power), 2 TMS (io), 3 GND (power), 4 TCK (out), 5 GND (power), 6 TDO (in), 8 TDI (out), 10 NRST

## K9F2G08U0M
designator U?
NAND Flash Memory
pins: 1 N.C hidden, 2 N.C hidden, 3 N.C hidden, 4 N.C hidden, 5 N.C hidden, 6 N.C hidden, 7 R/~{B}, 8 ~{RE}, 9 ~{CE}, 10 N.C hidden, 11 N.C hidden, 12 VCC (power), 13 VSS (power), 14 N.C hidden, 15 N.C hidden, 16 CLE, 17 ALE, 18 ~{WE}, 19 ~{WP}, 20 N.C hidden, 21 N.C hidden, 22 N.C hidden, 23 N.C hidden, 24 N.C hidden, 25 N.C hidden, 26 N.C hidden, 27 N.C hidden, 28 N.C hidden, 29 I/O 0, 30 I/O 1, 31 I/O 2, 32 I/O 3, 33 N.C hidden, 34 N.C hidden, 35 N.C hidden, 36 VSS (power), 37 VCC (power), 38 PRE, 39 N.C hidden, 40 N.C hidden, 41 I/O 4, 42 I/O 5, 43 I/O 6, 44 I/O 7, 45 N.C hidden, 46 N.C hidden, 47 N.C hidden, 48 N.C hidden

## L6207-PD
designator U?  (value not drawn)
DMOS Dual Full Bridge Driver; Published: 8-Jun-2000; PackageReference: SO28; Publisher: Altium Limited; PackageDescription: 28-Pin Plastic Small Outline Integrated Circuit 1.27 mm Pitch; Value: ?
pins: 0 Termal GND, 1 GND, 2 N.C. hidden, 3 N.C. hidden, 4 VSA, 5 OUT2A (out), 6 N.C. hidden, 7 VCP, 8 ENA (in), 9 VREFA, 10 IN1A (in), 11 IN2A (in), 12 SENSEA (out), 13 RCA, 14 N.C. hidden, 15 OUT1A (out), 16 N.C. hidden, 17 N.C. hidden, 18 GND, 19 GND, 20 N.C. hidden, 21 N.C. hidden, 22 OUT1B (out), 23 N.C. hidden, 24 RCB, 25 SENSEB (out), 26 IN1B (in), 27 IN2B (in), 28 VREFB, 29 ENB (in), 30 VBOOT, 31 N.C. hidden, 32 OUT2B (out), 33 VSB, 34 N.C. hidden, 35 N.C. hidden, 36 GND

## LCD2*16
designator LCD?  (value not drawn)
LCD; Value: ?
footprint LCD_CHAR-1
footprint LCD_CHAR-2
pins: 1 Vss, 2 Vcc, 3 Vee, 4 RS, 5 RW, 6 E, 7 D0, 8 D1, 9 D2, 10 D3, 11 D4, 12 D5, 13 D6, 14 D7, 15 B1, 16 B2
text: LCD 2*16

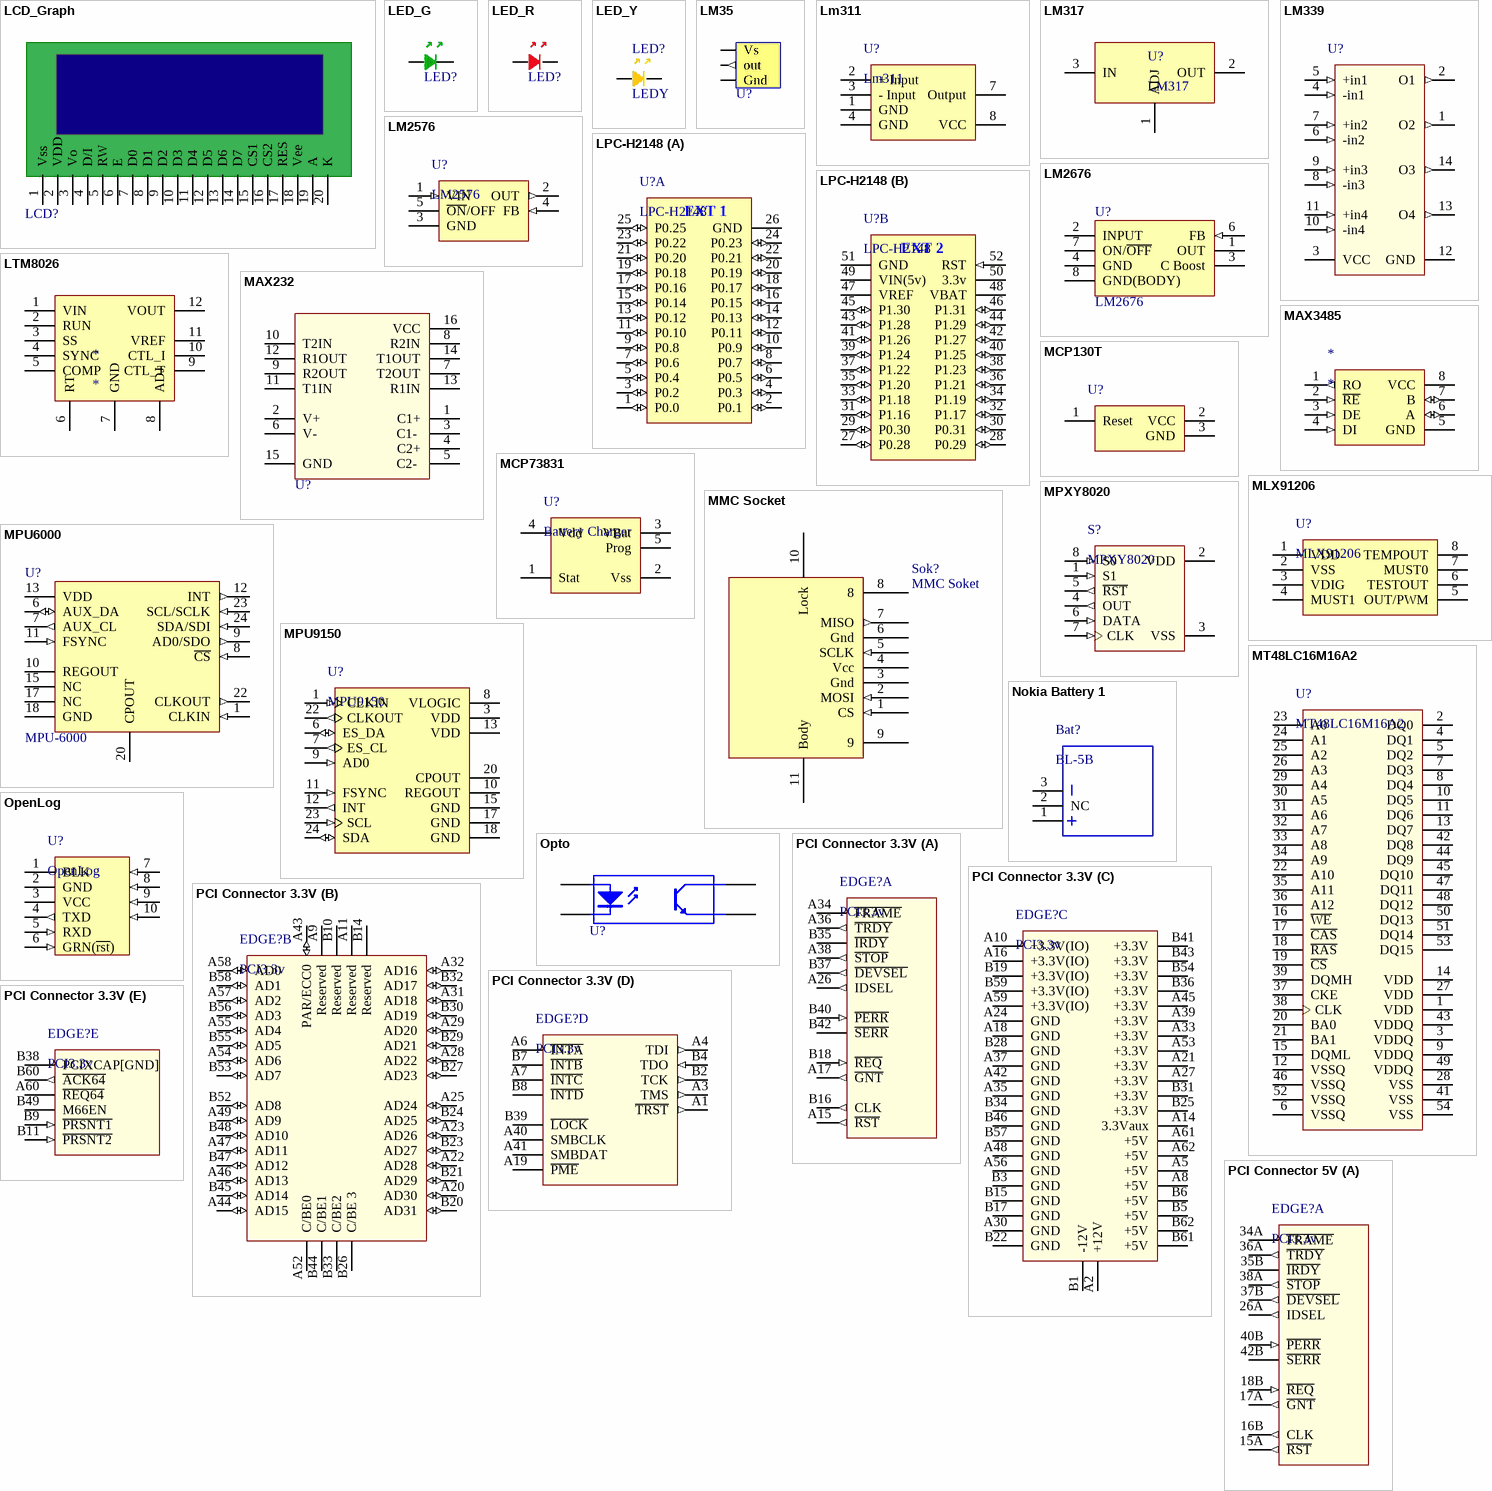
[diagram p3: symbols LCD_Graph to PCI Connector 5V]

## LCD_Graph
designator LCD?  (value not drawn)
LCD; Value: ?
pins: 1 Vss, 2 VDD, 3 Vo, 4 D/I, 5 RW, 6 E, 7 D0, 8 D1, 9 D2, 10 D3, 11 D4, 12 D5, 13 D6, 14 D7, 15 CS1, 16 CS2, 17 RES, 18 Vee, 19 A, 20 K

## LED_G
designator LED?, comment LEDG  (value not drawn)
LED; Value: ?
footprint LED-3 (LED in 3mm diamiter)
footprint LED-2
footprint LED-1
footprint 2012[0805]
pins: 1 A, 2 K

## LED_R
designator LED?, comment LEDR  (value not drawn)
LED; Value: ?
footprint LED-1
footprint LED-2
footprint LED-3 (LED in 3mm diamiter)
footprint 2012[0805]
footprint LED_2012[0805]
pins: 1 A, 2 K

## LED_Y
designator LED?, comment LEDY
LED; Value: ?
footprint LED-1
footprint LED-2
footprint LED-3 (LED in 3mm diamiter)
footprint 2012[0805]
pins: 1 A, 2 K

## LM35
designator U?  (value not drawn)
Tempreture sensore; Value: ?
footprint Lm35
pins: 1 Vs (power), 2 out (out), 3 Gnd (power)

## Lm311
designator U?
Analoge Comperator
footprint DIP8
footprint SOIC8
pins: 1 GND, 2 + Input, 3 - Input, 4 GND, 7 Output, 8 VCC

## LM317
designator U?
footprint TO-220
pins: 1 ADJ, 2 OUT, 3 IN

## LM339
designator U?  (value not drawn)
Quad Analog Comparator
footprint SO-14(M)
pins: 1 O2 (out), 2 O1 (out), 3 VCC (power), 4 -in1 (in), 5 +in1 (in), 6 -in2 (in), 7 +in2 (in), 8 -in3 (in), 9 +in3 (in), 10 -in4 (in), 11 +in4 (in), 12 GND (power), 13 O4 (out), 14 O3 (out)

## LM2576
designator U?
footprint TO5D
pins: 1 VIN (in), 2 OUT (out), 3 GND, 4 FB (in), 5 ~{ON}/OFF

## LM2676
designator U?
Voltage Regulator
pins: 1 OUT (power), 2 INPUT (power), 3 C Boost (power), 4 GND (power), 5 NC hidden, 6 FB (in), 7 ON/~{OFF}, 8 GND(BODY) (power)

## LPC-H2148
designator U?
ARM7 Dev Board
footprint LPC-H2148
part A pins: 1 P0.0 (io), 2 P0.1 (io), 3 P0.2 (io), 4 P0.3 (io), 5 P0.4 (io), 6 P0.5 (io), 7 P0.6 (io), 8 P0.7 (io), 9 P0.8 (io), 10 P0.9 (io), 11 P0.10 (io), 12 P0.11 (io), 13 P0.12 (io), 14 P0.13 (io), 15 P0.14 (io), 16 P0.15 (io), 17 P0.16 (io), 18 P0.17 (io), 19 P0.18 (io), 20 P0.19 (io), 21 P0.20 (io), 22 P0.21 (io), 23 P0.22 (io), 24 P0.23 (io), 25 P0.25 (io), 26 GND (power)
part B pins: 27 P0.28 (io), 28 P0.29 (io), 29 P0.30 (io), 30 P0.31 (io), 31 P1.16 (io), 32 P1.17 (io), 33 P1.18 (io), 34 P1.19 (io), 35 P1.20 (io), 36 P1.21 (io), 37 P1.22 (io), 38 P1.23 (io), 39 P1.24 (io), 40 P1.25 (io), 41 P1.26 (io), 42 P1.27 (io), 43 P1.28 (io), 44 P1.29 (io), 45 P1.30 (io), 46 P1.31 (io), 47 VREF, 48 VBAT (power), 49 VIN(5v) (power), 50 3.3v (power), 51 GND (power), 52 RST (in)
part A text: EXT 1
part B text: EXT 2

## LTM8026
designator *
footprint LGA_Package
pins: 1 VIN (power), 2 RUN (power), 3 SS (power), 4 SYNC (power), 5 COMP (power), 6 RT (power), 7 GND (power), 8 ADJ (power), 9 CTL_T (power), 10 CTL_I (power), 11 VREF (power), 12 VOUT (power)

## MAX232
designator U?  (value not drawn)
RS232
footprint DIP16
footprint SOIC16
pins: 1 C1+, 2 V+, 3 C1- , 4 C2+, 5 C2- , 6 V-, 7 T2OUT, 8 R2IN, 9 R2OUT, 10 T2IN, 11 T1IN, 12 R1OUT, 13 R1IN, 14 T1OUT, 15 GND, 16 VCC

## MAX3485
designator *
footprint SOIC8
pins: 1 RO (out), 2 ~{RE} (in), 3 DE (in), 4 DI (in), 5 GND (power), 6 A (io), 7 B (io), 8 VCC (power)

## MCP130T
designator U?  (value not drawn)
footprint SOT-23
pins: 1 Reset, 2 VCC, 3 GND

## MCP73831
designator U?, comment Battery Charger
footprint SOT-23-5
pins: 1 Stat, 2 Vss (power), 3 VBat (power), 4 Vdd (power), 5 Prog

## MLX91206
designator U?
Contactless current sensor
footprint SOIC8
pins: 1 VDD (power), 2 VSS (power), 3 VDIG, 4 MUST1, 5 OUT/PWM, 6 TESTOUT, 7 MUST0, 8 TEMPOUT

## MMC Socket
designator Sok?, comment MMC Soket
Connector; Value: ?
footprint MMC_Socket
pins: 1 CS (in), 2 MOSI (in), 3 Gnd (power), 4 Vcc (power), 5 SCLK (in), 6 Gnd (power), 7 MISO (out), 8, 9, 10 Lock, 11 Body

## MPU6000
designator U?, comment MPU-6000
6DOF IMU
footprint QFN24
pins: 1 CLKIN (in), 6 AUX_DA (io), 7 AUX_CL (out), 8 ~{CS} (in), 9 AD0/SDO (out), 10 REGOUT, 11 FSYNC (in), 12 INT (out), 13 VDD (power), 15 NC, 17 NC, 18 GND (power), 20 CPOUT, 22 CLKOUT (out), 23 SCL/SCLK (in), 24 SDA/SDI (in)

## MPU9150
designator U?
9-DOF IMU
footprint QFN24
pins: 1 CLKIN (in), 3 VDD (power), 6 ES_DA (io), 7 ES_CL (out), 8 VLOGIC (power), 9 AD0 (in), 10 REGOUT (power), 11 FSYNC (in), 12 INT (out), 13 VDD (power), 15 GND (power), 17 GND (power), 18 GND (power), 20 CPOUT, 22 CLKOUT (out), 23 SCL (in), 24 SDA (io)

## MPXY8020
designator S?
Tire Pressur Sensor
footprint SSOP-8
pins: 1 S1 (in), 2 VDD, 3 VSS, 4 OUT (out), 5 ~{RST} (out), 6 DATA (in), 7 CLK (in), 8 S0 (in)

## MT48LC16M16A2
designator U?
16 Meg SDRAM
footprint TSOP54
pins: 1 VDD (power), 2 DQ0, 3 VDDQ (power), 4 DQ1, 5 DQ2, 6 VSSQ (power), 7 DQ3, 8 DQ4, 9 VDDQ (power), 10 DQ5, 11 DQ6, 12 VSSQ (power), 13 DQ7, 14 VDD (power), 15 DQML, 16 ~{WE}, 17 ~{CAS}, 18 ~{RAS}, 19 ~{CS}, 20 BA0, 21 BA1, 22 A10, 23 A0, 24 A1, 25 A2, 26 A3, 27 VDD (power), 28 VSS (power), 29 A4, 30 A5, 31 A6, 32 A7, 33 A8, 34 A9, 35 A11, 36 A12, 37 CKE, 38 CLK, 39 DQMH, 40 N.C hidden, 41 VSS (power), 42 DQ8, 43 VDDQ, 44 DQ9, 45 DQ10, 46 VSSQ (power), 47 DQ11, 48 DQ12, 49 VDDQ (power), 50 DQ13, 51 DQ14, 52 VSSQ (power), 53 DQ15, 54 VSS (power)

## Nokia Battery 1
designator Bat?, comment BL-5B
footprint BL-5B
pins: 1 (power), 2 NC (power), 3 (power)

## OpenLog
designator U?
Data Logger
footprint OpenLog
pins: 1 BLK, 2 GND (power), 3 VCC (power), 4 TXD (out), 5 RXD (in), 6 GRN(~{rst}) (in), 7 NC (in), 8 NC (in), 9 NC (in), 10 NC (in)

## Opto
designator U?, comment ?  (value not drawn)
Opto; Value: ?
pins: 1 A, 2 K, 3 E, 4 C

## PCI Connector 3.3V
designator EDGE?, comment PCI3.3v
footprint PCI
part A pins: A15 ~{RST} (out), A17 ~{GNT} (out), A26 IDSEL (out), A34 ~{FRAME} (oc), A36 ~{TRDY} (out), A38 ~{STOP} (out), B16 CLK (out), B18 ~{REQ} (in), B35 ~{IRDY} (oc), B37 ~{DEVSEL} (out), B40 ~{PERR} (in), B42 ~{SERR} (oc)
part B pins: A9 Reserved, A11 Reserved, A20 AD30 (io), A22 AD28 (io), A23 AD26 (io), A25 AD24 (io), A28 AD22 (io), A29 AD20 (io), A31 AD18 (io), A32 AD16 (io), A43 PAR/ECC0 (io), A44 AD15 (io), A46 AD13 (io), A47 AD11 (io), A49 AD9 (io), A52 C/BE0 (oc), A54 AD6 (io), A55 AD4 (io), A57 AD2 (io), A58 AD0 (io), B10 Reserved, B14 Reserved, B20 AD31 (io), B21 AD29 (io), B23 AD27 (io), B24 AD25 (io), B26 C/BE 3 (oc), B27 AD23 (io), B29 AD21 (io), B30 AD19 (io), B32 AD17 (io), B33 C/BE2 (oc), B44 C/BE1 (oc), B45 AD14 (io), B47 AD12 (io), B48 AD10 (io), B52 AD8 (io), B53 AD7 (io), B55 AD5 (io), B56 AD3 (io), B58 AD1 (io)
part C pins: A2 +12V, A5 +5V (power), A8 +5V (power), A10 +3.3V(IO) (power), A14 3.3Vaux (power), A16 +3.3V(IO) (power), A18 GND (power), A21 +3.3V (power), A24 GND (power), A27 +3.3V (power), A30 GND (power), A33 +3.3V (power), A35 GND (power), A37 GND (power), A39 +3.3V (power), A42 GND (power), A45 +3.3V (power), A48 GND, A53 +3.3V (power), A56 GND (power), A59 +3.3V(IO) (power), A61 +5V, A62 +5V, B1 -12V (power), B3 GND (power), B5 +5V (power), B6 +5V (power), B15 GND (power), B17 GND (power), B19 +3.3V(IO) (power), B22 GND (power), B25 +3.3V (power), B28 GND (power), B31 +3.3V (power), B34 GND (power), B36 +3.3V (power), B41 +3.3V (power), B43 +3.3V (power), B46 GND (power), B54 +3.3V (power), B57 GND (power), B59 +3.3V(IO), B61 +5V (power), B62 +5V (power)
part D pins: A1 ~{TRST} (out), A3 TMS (out), A4 TDI (out), A6 ~{INTA} (oc), A7 ~{INTC} (oc), A19 ~{PME} (oc), A40 SMBCLK (oc), A41 SMBDAT (oc), B2 TCK (out), B4 TDO (in), B7 ~{INTB} (oc), B8 ~{INTD} (oc), B39 ~{LOCK} (oc)
part E pins: A60 ~{REQ64} (oc), B9 ~{PRSNT1} (in), B11 ~{PRSNT2} (in), B38 PCIXCAP[GND], B49 M66EN (oc), B60 ~{ACK64} (out)

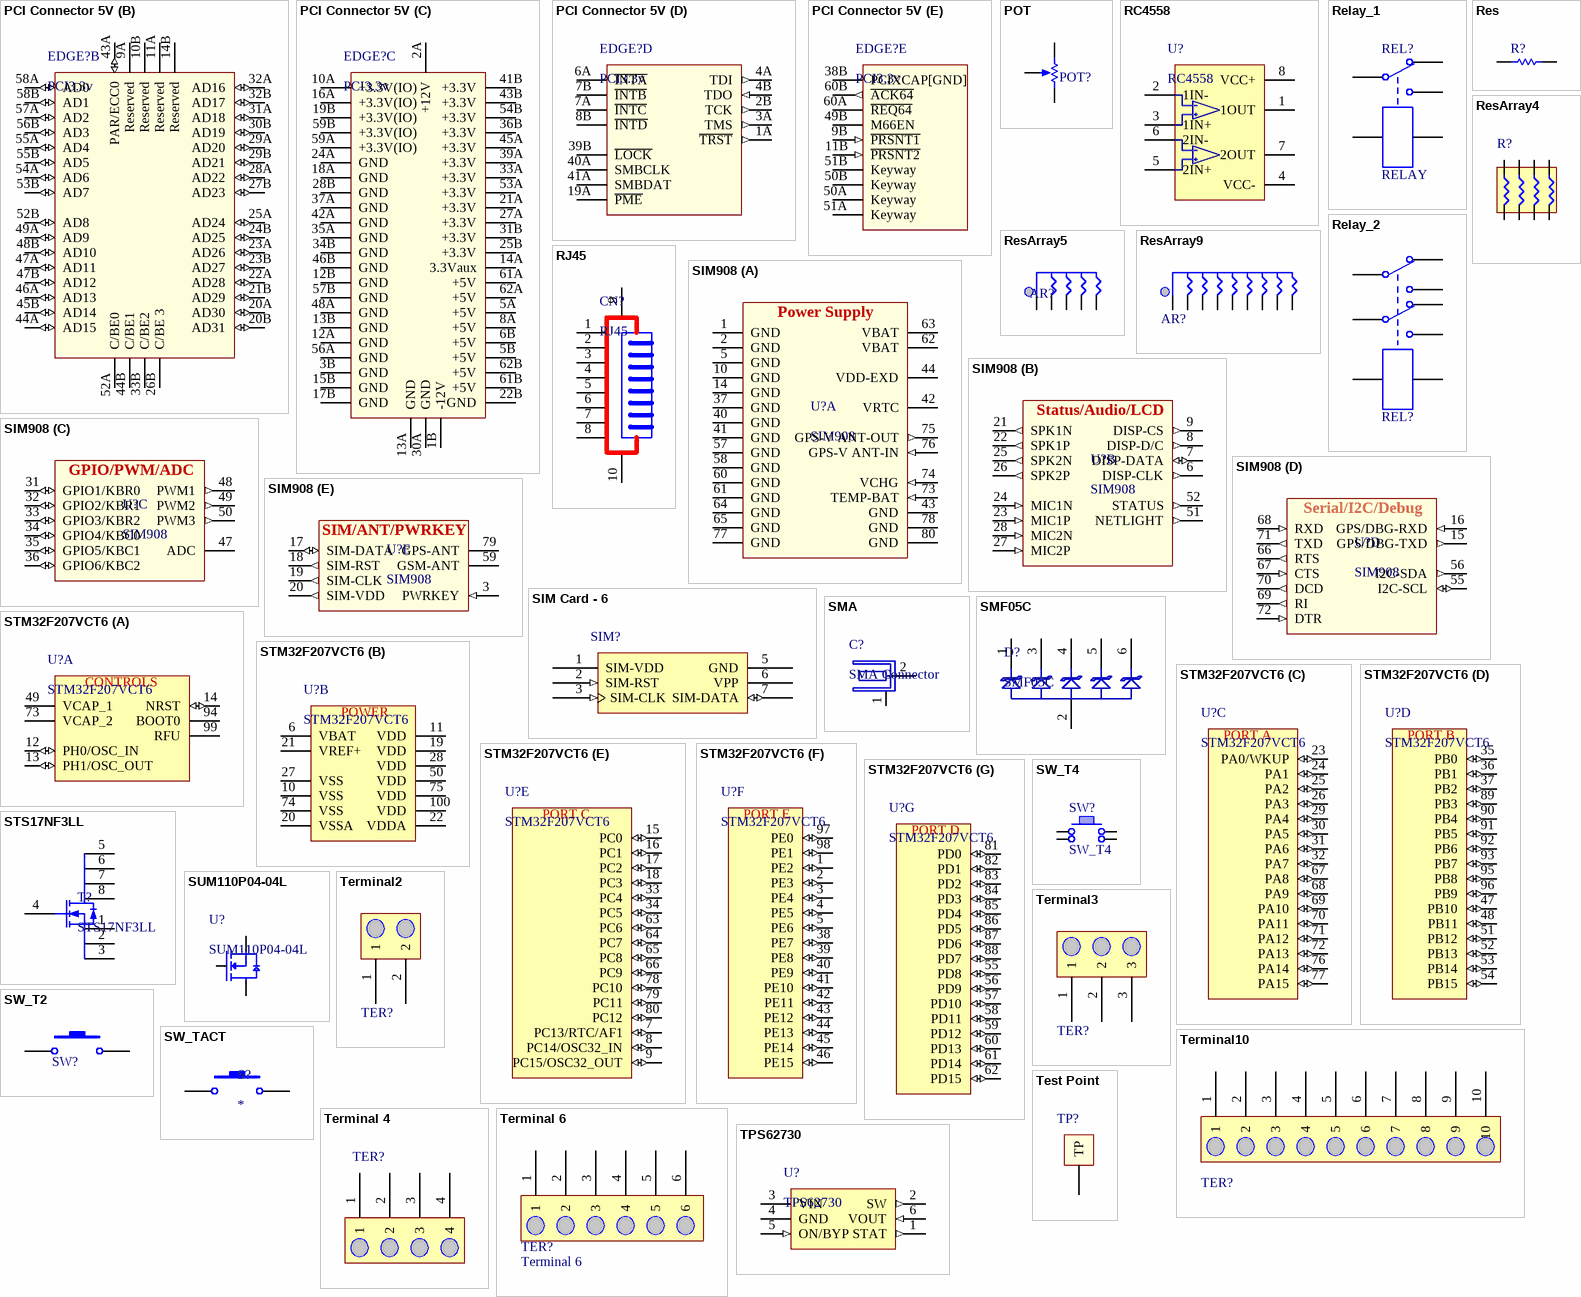
[diagram p4: symbols PCI Connector 5V to TPS62730]

## PCI Connector 5V
designator EDGE?, comment PCI3.3v
part A pins: 15A ~{RST} (out), 16B CLK (out), 17A ~{GNT} (out), 18B ~{REQ} (in), 26A IDSEL (out), 34A ~{FRAME} (oc), 35B ~{IRDY} (oc), 36A ~{TRDY} (out), 37B ~{DEVSEL} (out), 38A ~{STOP} (out), 40B ~{PERR} (in), 42B ~{SERR} (oc)
part B pins: 9A Reserved, 10B Reserved, 11A Reserved, 14B Reserved, 20A AD30 (io), 20B AD31 (io), 21B AD29 (io), 22A AD28 (io), 23A AD26 (io), 23B AD27 (io), 24B AD25 (io), 25A AD24 (io), 26B C/BE 3 (oc), 27B AD23 (io), 28A AD22 (io), 29A AD20 (io), 29B AD21 (io), 30B AD19 (io), 31A AD18 (io), 32A AD16 (io), 32B AD17 (io), 33B C/BE2 (oc), 43A PAR/ECC0 (io), 44A AD15 (io), 44B C/BE1 (oc), 45B AD14 (io), 46A AD13 (io), 47A AD11 (io), 47B AD12 (io), 48B AD10 (io), 49A AD9 (io), 52A C/BE0 (oc), 52B AD8 (io), 53B AD7 (io), 54A AD6 (io), 55A AD4 (io), 55B AD5 (io), 56B AD3 (io), 57A AD2 (io), 58A AD0 (io), 58B AD1 (io)
part C pins: 1B -12V (power), 2A +12V, 3B GND (power), 5A +5V (power), 5B +5V (power), 6B +5V (power), 8A +5V (power), 10A +3.3V(IO) (power), 12A GND, 12B GND, 13A GND, 13B GND, 14A 3.3Vaux (power), 15B GND (power), 16A +3.3V(IO) (power), 17B GND (power), 18A GND (power), 19B +3.3V(IO) (power), 21A +3.3V (power), 22B GND (power), 24A GND (power), 25B +3.3V (power), 27A +3.3V (power), 28B GND (power), 30A GND (power), 31B +3.3V (power), 33A +3.3V (power), 34B GND (power), 35A GND (power), 36B +3.3V (power), 37A GND (power), 39A +3.3V (power), 41B +3.3V (power), 42A GND (power), 43B +3.3V (power), 45A +3.3V (power), 46B GND (power), 48A GND, 53A +3.3V (power), 54B +3.3V (power), 56A GND (power), 57B GND (power), 59A +3.3V(IO) (power), 59B +3.3V(IO), 61A +5V, 61B +5V (power), 62A +5V, 62B +5V (power)
part D pins: 1A ~{TRST} (out), 2B TCK (out), 3A TMS (out), 4A TDI (out), 4B TDO (in), 6A ~{INTA} (oc), 7A ~{INTC} (oc), 7B ~{INTB} (oc), 8B ~{INTD} (oc), 19A ~{PME} (oc), 39B ~{LOCK} (oc), 40A SMBCLK (oc), 41A SMBDAT (oc)
part E pins: 9B ~{PRSNT1} (in), 11B ~{PRSNT2} (in), 38B PCIXCAP[GND], 49B M66EN (oc), 50A Keyway (power), 50B Keyway, 51A Keyway (power), 51B Keyway (power), 60A ~{REQ64} (oc), 60B ~{ACK64} (out)

## POT
designator POT?, comment ?  (value not drawn)
Res; Value: ?
footprint POT-1 (Tapped Resistor; 3 Leads)
footprint POT-2 (Feed-Through Capacitor; 3 Leads)
footprint POT-3 (Potentiometer; 3 Leads)
footprint POT-4
pins: 1 TOP, 2 TAP, 3 BOT

## RC4558
designator U?
SMD Dual Opamp
footprint SOIC8
pins: 1 1OUT, 2 1IN-, 3 1IN+, 4 VCC-, 5 2IN+, 6 2IN-, 7 2OUT, 8 VCC+

## Relay_1
designator REL?, comment RELAY
Value: ?
footprint RELAY-1
footprint RELAY-4
pins: 1, 2, 3, 4, 5

## Relay_2
designator REL?, comment Relay  (value not drawn)
Value: ?
footprint RELAY-2 (Relay_5)
pins: 1, 2, 3, 4, 5, 6, 7, 8

## Res
designator R?  (value not drawn)
Res; Value: *
footprint AXIAL-0.3
footprint AXIAL-0.4
footprint AXIAL-0.5
footprint AXIAL-0.6
footprint AXIAL-0.7
footprint 1005[0402] (SMT LED; 2 Flat Leads)
footprint 1608[0603] (Chip Capacitor; Body 1.6 x 0.8 mm (LxW typ))
footprint 2012[0805]
footprint 3216[1206]
footprint 3225[1210]
footprint 5025[2010]
footprint 6332[2512]
footprint RES-1
footprint RES-2
footprint 0805
footprint 5931
pins: 1, 2

## ResArray4
designator R?  (value not drawn)
Res
footprint 0804
pins: 1, 2, 3, 4, 5, 6, 7, 8

## ResArray5
designator AR?, comment Array Resistor  (value not drawn)
Value: *
footprint RES-ARR5
pins: 1, 2, 3, 4, 5

## ResArray9
designator AR?, comment ?  (value not drawn)
Res; Value: ?
footprint RES-ARR9
pins: 1, 2, 3, 4, 5, 6, 7, 8, 9

## RJ45
designator CN?
RJ45 Connector
pins: 1, 2, 3, 4, 5, 6, 7, 8, 9, 10

## SIM908
designator U?
GPS/GSM Module
footprint SIM908
part A pins: 1 GND (power), 2 GND (power), 5 GND (power), 10 GND (power), 14 GND (power), 37 GND (power), 40 GND (power), 41 GND (power), 42 VRTC (power), 43 GND (power), 44 VDD-EXD (power), 57 GND (power), 58 GND (power), 60 GND (power), 61 GND (power), 62 VBAT (power), 63 VBAT (power), 64 GND (power), 65 GND (power), 73 TEMP-BAT (in), 74 VCHG (in), 75 GPS-V ANT-OUT (out), 76 GPS-V ANT-IN (in), 77 GND (power), 78 GND (power), 80 GND (power)
part B pins: 6 DISP-CLK (out), 7 DISP-DATA (io), 8 DISP-D/C (out), 9 DISP-CS (out), 21 SPK1N (out), 22 SPK1P (out), 23 MIC1P (in), 24 MIC1N (in), 25 SPK2N (out), 26 SPK2P (out), 27 MIC2P (in), 28 MIC2N (in), 51 NETLIGHT (out), 52 STATUS (out)
part C pins: 31 GPIO1/KBR0 (io), 32 GPIO2/KBR1 (io), 33 GPIO3/KBR2 (io), 34 GPIO4/KBC0 (io), 35 GPIO5/KBC1 (io), 36 GPIO6/KBC2 (io), 47 ADC, 48 PWM1 (out), 49 PWM2 (out), 50 PWM3 (out)
part D pins: 15 GPS/DBG-TXD (out), 16 GPS/DBG-RXD (in), 55 I2C-SCL (io), 56 I2C-SDA (out), 66 RTS (out), 67 CTS (in), 68 RXD (in), 69 RI (out), 70 DCD (out), 71 TXD (out), 72 DTR (in)
part E pins: 3 PWRKEY (in), 17 SIM-DATA (io), 18 SIM-RST (out), 19 SIM-CLK (out), 20 SIM-VDD (out), 59 GSM-ANT, 79 GPS-ANT
part A text: Power Supply
part B text: Status/Audio/LCD
part C text: GPIO/PWM/ADC
part D text: Serial/I2C/Debug
part E text: SIM/ANT/PWRKEY

## SIM Card - 6
designator SIM?, comment SimCard Socket  (value not drawn)
footprint SIM-CARD 1
pins: 1 SIM-VDD (power), 2 SIM-RST (in), 3 SIM-CLK (in), 5 GND (power), 6 VPP, 7 SIM-DATA (io)

## SMA
designator C?, comment SMA Connector
footprint SMA Connector
pins: 1, 2

## SMF05C
designator D?
ESD Protector/TVS Diod Array
footprint SC70 6L
pins: 1, 2, 3, 4, 5, 6

## STM32F207VCT6
designator U?
ARM MCU
footprint LQFP100_M (Footprint not found)
part A pins: 12 PH0/OSC_IN (io), 13 PH1/OSC_OUT (io), 14 NRST (io), 49 VCAP_1, 73 VCAP_2, 94 BOOT0, 99 RFU
part B pins: 6 VBAT (power), 10 VSS (power), 11 VDD (power), 19 VDD (power), 20 VSSA (power), 21 VREF+, 22 VDDA (power), 27 VSS (power), 28 VDD (power), 50 VDD (power), 74 VSS (power), 75 VDD (power), 100 VDD (power)
part C pins: 23 PA0/WKUP (io), 24 PA1 (io), 25 PA2 (io), 26 PA3 (io), 29 PA4 (io), 30 PA5 (io), 31 PA6 (io), 32 PA7 (io), 67 PA8 (io), 68 PA9 (io), 69 PA10 (io), 70 PA11 (io), 71 PA12 (io), 72 PA13 (io), 76 PA14 (io), 77 PA15 (io)
part D pins: 35 PB0 (io), 36 PB1 (io), 37 PB2 (io), 47 PB10 (io), 48 PB11 (io), 51 PB12 (io), 52 PB13 (io), 53 PB14 (io), 54 PB15 (io), 89 PB3 (io), 90 PB4 (io), 91 PB5 (io), 92 PB6 (io), 93 PB7 (io), 95 PB8 (io), 96 PB9 (io)
part E pins: 7 PC13/RTC/AF1 (io), 8 PC14/OSC32_IN (io), 9 PC15/OSC32_OUT (io), 15 PC0 (io), 16 PC1 (io), 17 PC2 (io), 18 PC3 (io), 33 PC4 (io), 34 PC5 (io), 63 PC6 (io), 64 PC7 (io), 65 PC8 (io), 66 PC9 (io), 78 PC10 (io), 79 PC11 (io), 80 PC12 (io)
part F pins: 1 PE2 (io), 2 PE3 (io), 3 PE4 (io), 4 PE5 (io), 5 PE6 (io), 38 PE7 (io), 39 PE8 (io), 40 PE9 (io), 41 PE10 (io), 42 PE11 (io), 43 PE12 (io), 44 PE13 (io), 45 PE14 (io), 46 PE15 (io), 97 PE0 (io), 98 PE1 (io)
part G pins: 55 PD8 (io), 56 PD9 (io), 57 PD10 (io), 58 PD11 (io), 59 PD12 (io), 60 PD13 (io), 61 PD14 (io), 62 PD15 (io), 81 PD0 (io), 82 PD1 (io), 83 PD2 (io), 84 PD3 (io), 85 PD4 (io), 86 PD5 (io), 87 PD6 (io), 88 PD7 (io)
part A text: CONTROLS
part B text: POWER
part C text: PORT A
part D text: PORT B
part E text: PORT C
part F text: PORT E
part G text: PORT D

## STS17NF3LL
designator T?
N-CH/30V/17A/0.0045R MOSFET
footprint SOIC8
pins: 1 S, 2 S, 3 S, 4 G, 5 D, 6 D, 7 D, 8 D

## SUM110P04-04L
designator U?
P FET
footprint TO-263AB_L (Footprint not found)
pins: 1, 3, 4

## SW_T2
designator SW?  (value not drawn)
Key
footprint SW_T2-1 (square PCB monted push botton switch)
footprint SW_T2-2 (square PCB monted push botton switch)
footprint FSMSM
pins: 1, 2

## SW_T4
designator SW?
Key; Value: ?
footprint SW_T4-1
pins: 1, 2, 3, 4

## SW_TACT
designator S?
Tactile switch
footprint PTS645SH50SMTR92_LFS (Tactile switch)
pins: 1, 2

## Terminal2
designator TER?  (value not drawn)
Connector; Value: ?
footprint TERM2
pins: 1, 2

## Terminal3
designator TER?  (value not drawn)
Connector; Value: ?
footprint TERM3
pins: 1, 2, 3

## Terminal10
designator TER?  (value not drawn)
Connector; Value: ?
footprint Term10
pins: 1, 2, 3, 4, 5, 6, 7, 8, 9, 10

## Terminal 4
designator TER?  (value not drawn)
Connector
footprint Term4
pins: 1, 2, 3, 4

## Terminal 6
designator TER?
Connector; Value: ?
footprint Term6
pins: 1, 2, 3, 4, 5, 6

## Test Point
designator TP?  (value not drawn)
footprint Test_Point
pins: 1 TP (power)

## TPS62730
designator U?
Switching Regulator
pins: 1 STAT (out), 2 SW (out), 3 VIN (power), 4 GND (power), 5 ON/BYP (in), 6 VOUT (in)

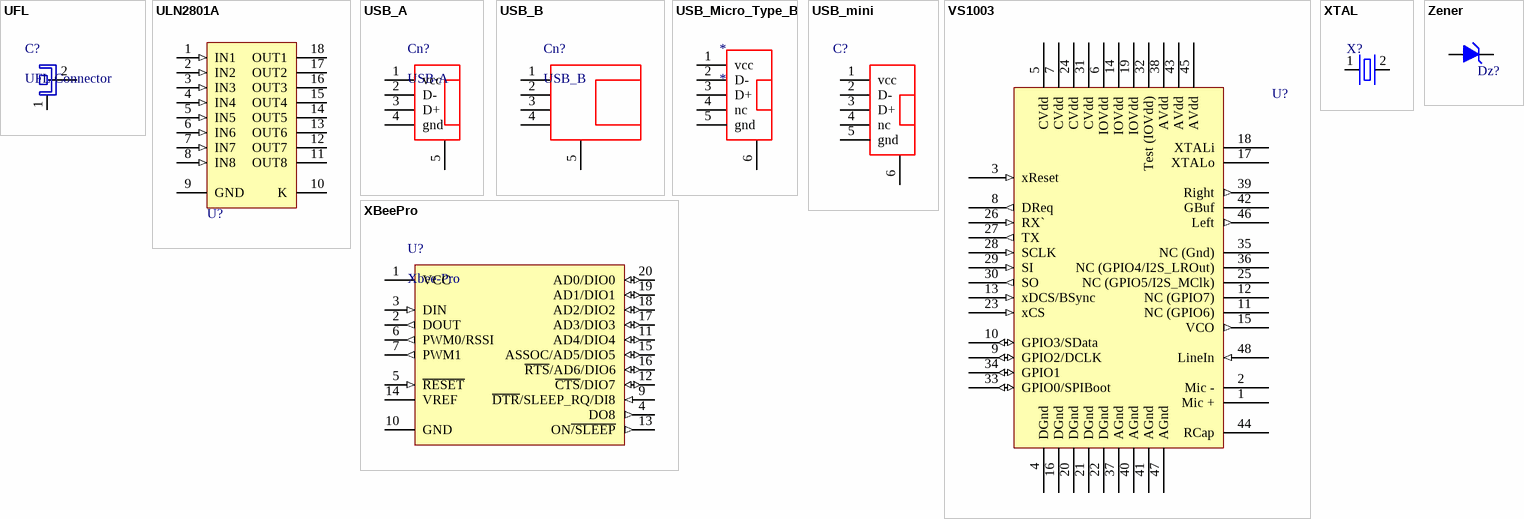
[diagram p5: symbols UFL to Zener]

## UFL
designator C?, comment UFL Connector
footprint UFL Connector
pins: 1, 2

## ULN2801A
designator U?  (value not drawn)
Driver Array; Published: 17-Jul-2002; LatestRevisionDate: 06-Jun-2005; LatestRevisionNote: Stylized 3D Model Added.; DatasheetVersion: 1988; PackageReference: 707-02; Publisher: Altium Limited; PackageDescription: DIP; 18 Leads; Row Spacing 7.62 mm; Pitch 2.54 mm; Value: ?
pins: 1 IN1 (in), 2 IN2 (in), 3 IN3 (in), 4 IN4 (in), 5 IN5 (in), 6 IN6 (in), 7 IN7 (in), 8 IN8 (in), 9 GND (power), 10 K, 11 OUT8 (oc), 12 OUT7 (oc), 13 OUT6 (oc), 14 OUT5 (oc), 15 OUT4 (oc), 16 OUT3 (oc), 17 OUT2 (oc), 18 OUT1 (oc)

## USB_A
designator Cn?, comment USB-A
USB Connector A
footprint USB_A
footprint USB2.5-2H4 (Connector; USB1.1, Series A, Reverse Type, Thru-Hole; 4 Position; Right Angle)
pins: 1 vcc, 2 D-, 3 D+, 4 gnd, 5

## USB_B
designator Cn?
USB Connector B
footprint USB_B
pins: 1, 2, 3, 4, 5

## USB_Micro_Type_B
designator *
footprint Micro_USB_B_Type_Receptacle
pins: 1 vcc, 2 D-, 3 D+, 4 nc, 5 gnd, 6

## USB_mini
designator C?, comment Mini USB  (value not drawn)
Mini USB B type
footprint USB/SM0.8-6H5 (Connector; USB2.0, Type B, SM; 5 Position; Right Angle)
pins: 1 vcc, 2 D-, 3 D+, 4 nc, 5 gnd, 6

## VS1003
designator U?  (value not drawn)
Mp3 Player; Value: ?
pins: 1 Mic +, 2 Mic -, 3 xReset (in), 4 DGnd (power), 5 CVdd (power), 6 IOVdd (power), 7 CVdd (power), 8 DReq (out), 9 GPIO2/DCLK (io), 10 GPIO3/SData (io), 11 NC (GPIO6), 12 NC (GPIO7), 13 xDCS/BSync (in), 14 IOVdd (power), 15 VCO (out), 16 DGnd (power), 17 XTALo, 18 XTALi, 19 IOVdd (power), 20 DGnd (power), 21 DGnd (power), 22 DGnd (power), 23 xCS (in), 24 CVdd (power), 25 NC (GPIO5/I2S_MClk), 26 RX` (in), 27 TX (out), 28 SCLK (in), 29 SI (in), 30 SO (out), 31 CVdd (power), 32 Test (IOVdd) (power), 33 GPIO0/SPIBoot (io), 34 GPIO1 (io), 35 NC (Gnd), 36 NC (GPIO4/I2S_LROut), 37 AGnd (power), 38 AVdd (power), 39 Right (out), 40 AGnd (power), 41 AGnd (power), 42 GBuf, 43 AVdd (power), 44 RCap, 45 AVdd (power), 46 Left (out), 47 AGnd (power), 48 LineIn (in)

## XBeePro
designator U?, comment Xbee-Pro
XbeePro Tranceiver
footprint XBeePro
pins: 1 VCC (power), 2 DOUT (out), 3 DIN (in), 4 DO8 (out), 5 ~{RESET} (in), 6 PWM0/RSSI (out), 7 PWM1 (out), 9 ~{DTR}/SLEEP_RQ/DI8 (in), 10 GND, 11 AD4/DIO4 (io), 12 ~{CTS}/DIO7 (io), 13 ON~{/SLEEP} (out), 14 VREF, 15 ASSOC/AD5/DIO5 (io), 16 ~{RTS}/AD6/DIO6 (io), 17 AD3/DIO3 (io), 18 AD2/DIO2 (io), 19 AD1/DIO1 (io), 20 AD0/DIO0 (io)

## XTAL
designator X?, comment ?  (value not drawn)
Crystal Oscillator; Published: 8-Jun-2000; LatestRevisionDate: 17-Jul-2002; LatestRevisionNote: Re-released for DXP Platform.; PackageReference: R38; Publisher: Altium Limited; Value: ?
footprint crystal
footprint CRYSTAL-SMD
footprint ABM7
footprint 0805
pins: 1 OSC1, 2 OSC2

## Zener
designator Dz?, comment ?  (value not drawn)
Diode; Value: ?
footprint Diode-1
footprint DIODE-3
footprint MINIMELF
pins: 1 A, 2 K